# Altium schematic symbol library fader2_parts.SchLib: 112 symbols (part 1 of 2)
Pins are listed as number, name and electrical type; pins without a type are passive.

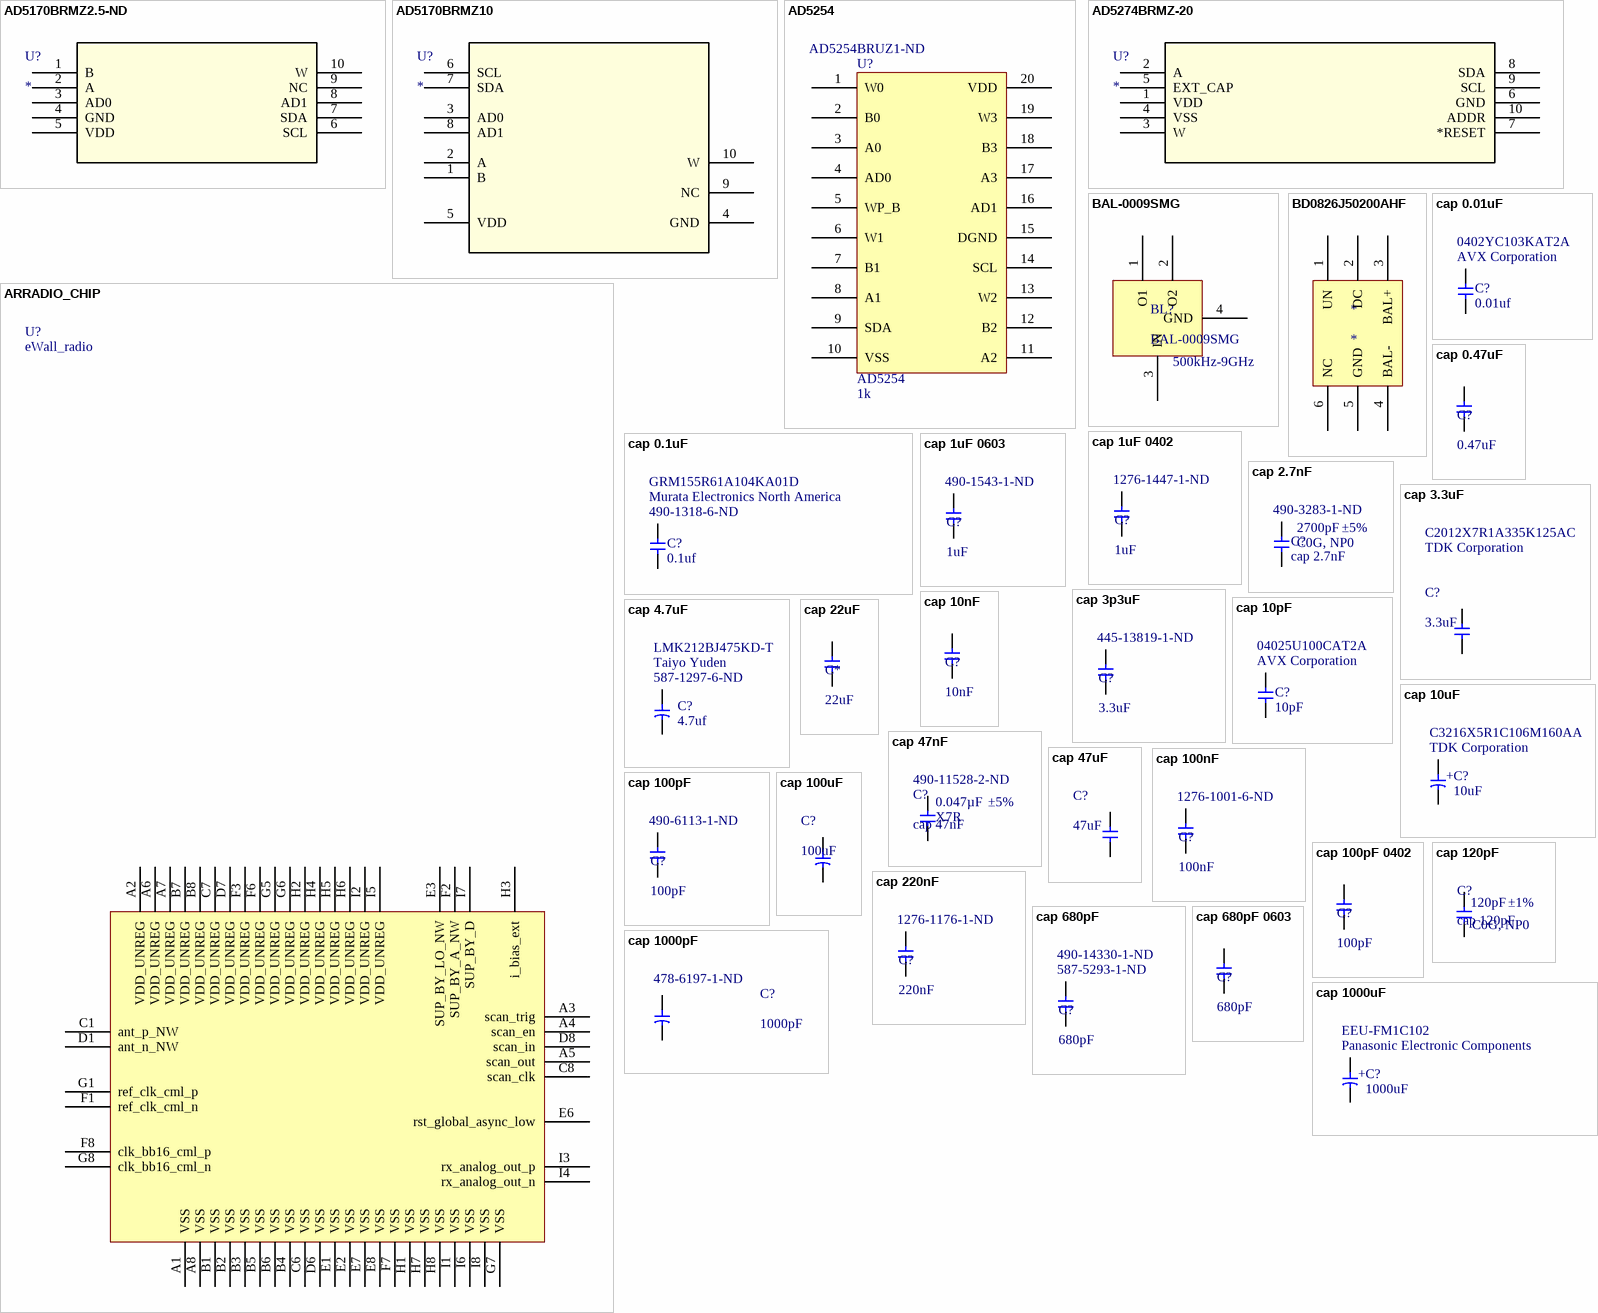
[diagram p0: symbols AD5170BRMZ2.5-ND to cap 1000uF]

## AD5170BRMZ2.5-ND
designator U?
Imported; Manufacturer_Part_Number: AD5170BRMZ2.5-ND; Mounting_Type: Surface Mount; Operating_Temperature: -40Â°C ~ 125Â°C; Voltage_-_Supply: 2.7 V ~ 5.5 V; Interface: IÂ²C, 2-Wire Serial; Vendor: Analog Devices Inc; Taps: 256; Resistance_(Ohms): 10K; Number_of_Circuits: 1; Temperature_Coefficient: 35 ppm/Â°C Typical; Memory_Type: Volatile; Copyright: Copyright (C) 2015 Accelerated Designs. All rights reserved; Packaging: Tube; Supplier_Device_Package: 10-MSOP; Package_/_Case: 10-TFSOP, 10-MSOP (0.118", 3.00mm Width); DigiKeyPartNumber: AD5170BRMZ10-ND; Quantity_Available: 0; DataSheet: http://www.analog.com/static/imported-files/data_sheets/AD5170.pdf; Value: Value; Type: Type; RefDes: RefDes
footprint RM_10
pins: 1 B, 2 A, 3 AD0, 4 GND, 5 VDD (power), 6 SCL, 7 SDA, 8 AD1, 9 NC, 10 W

## AD5170BRMZ10
designator U?
Imported; Manufacturer_Part_Number: AD5170BRMZ10; Vendor: Vendor; Value: Value; Type: Type; RefDes: Refdes
footprint RM_10
pins: 1 B, 2 A, 3 AD0, 4 GND, 5 VDD (power), 6 SCL, 7 SDA, 8 AD1, 9 NC, 10 W

## AD5254
designator U?  Resistance: 1k  Supplier Part Number 1: AD5254BRUZ1-ND
Digital Potentiometer 1k Ohm 4 Circuit 256 Taps I²C Interface 20-TSSOP; Manufacturer: Analog Devices; Manufacturer ID: AD5254BRUZ1; Digikey ID: AD5254BRUZ1-ND; Supplier 1: Digi-Key
footprint AD5254
pins: 1 W0, 2 B0, 3 A0, 4 AD0, 5 WP_B, 6 W1, 7 B1, 8 A1, 9 SDA, 10 VSS, 11 A2, 12 B2, 13 W2, 14 SCL, 15 DGND, 16 AD1, 17 A3, 18 B3, 19 W3, 20 VDD

## AD5274BRMZ-20
designator U?
Imported; Value: Value; Type: Type; RefDes: RefDes
footprint RM_10
pins: 1 VDD, 2 A, 3 W, 4 VSS, 5 EXT_CAP, 6 GND, 7 *RESET, 8 SDA, 9 SCL, 10 ADDR

## ARRADIO_CHIP
designator U?, comment eWall_radio
eWallpaper radio test chip; Published: 8-Jun-2000; LatestRevisionDate: 17-Jul-2002; LatestRevisionNote: Re-released for DXP Platform.; PackageReference: AXIAL-0.3; Publisher: Altium Limited; PackageDescription: Axial Device, Thru-Hole; 2 Leads; 0.3 in Pin Spacing
footprint ARRADIO_CHIP
pins: A1 VSS, A2 VDD_UNREG, A3 scan_trig, A4 scan_en, A5 scan_out, A6 VDD_UNREG, A7 VDD_UNREG, A8 VSS, B1 VSS, B2 VSS, B3 VSS, B4 VSS, B5 VSS, B6 VSS, B7 VDD_UNREG, B8 VDD_UNREG, C1 ant_p_NW, C6 VSS, C7 VDD_UNREG, C8 scan_clk, D1 ant_n_NW, D6 VSS, D7 VDD_UNREG, D8 scan_in, E1 VSS, E2 VSS, E3 SUP_BY_LO_NW, E6 rst_global_async_low, E7 VSS, E8 VSS, F1 ref_clk_cml_n, F2 SUP_BY_A_NW, F3 VDD_UNREG, F6 VDD_UNREG, F7 VSS, F8 clk_bb16_cml_p, G1 ref_clk_cml_p, G5 VDD_UNREG, G6 VDD_UNREG, G7 VSS, G8 clk_bb16_cml_n, H1 VSS, H2 VDD_UNREG, H3 i_bias_ext, H4 VDD_UNREG, H5 VDD_UNREG, H6 VDD_UNREG, H7 VSS, H8 VSS, I1 VSS, I2 VDD_UNREG, I3 rx_analog_out_p, I4 rx_analog_out_n, I5 VDD_UNREG, I6 VSS, I7 SUP_BY_D, I8 VSS

## BAL-0009SMG
designator BL?  Frequency Range: 500kHz-9GHz
Balun; Manufacturer: Marki; Manufacturer ID: BAL-0009SMG
footprint BALUN_Marki
pins: 1 O1, 2 O2, 3 IN, 4 GND

## BD0826J50200AHF
designator *
50:200 ohm, 0.8-2.6 GHz balun
footprint BD0826J50200AHF (50:200 ohm, 0.8-2.6 GHz balun)
pins: 1 UN, 2 DC, 3 BAL+, 4 BAL-, 5 GND, 6 NC

## cap 0.01uF
designator C?, comment 0.01uf  Manufacturer: AVX Corporation  Manufacturer Part Number: 0402YC103KAT2A
CAP CER 10000PF 16V 10% X7R 0402; Supplier 1: Digi-Key; Supplier Part Number 1: 478-1114-1-ND; RoHS: RoHS Compliant; Category: Capacitors; Stock 1: 1512647; Pricing 1: 1=0.1, 10=0.014, 100=0.0066, 250=0.0054, 500=0.00462, 1000=0.0036, 5000=0.003 (USD); Packaging: Cut Tape (CT); Capacitance: 10000pF; Voltage - Rated: 16V; Tolerance: ±10%; Temperature Coefficient: X7R; Mounting Type: Surface Mount, MLCC; Operating Temperature: -55°C ~ 125°C; Applications: General Purpose; Ratings: -; Package / Case: 0402 (1005 Metric); Size / Dimension: 0.039" L x 0.020" W (1.00mm x 0.50mm); Height - Seated (Max): -; Thickness (Max): 0.022" (0.56mm); Lead Spacing: -; Features: -; Lead Style: -; ComponentLink1URL: http://www.avx.com/docs/Catalogs/cx7r.pdf; ComponentLink1Description: http://www.avx.com/docs/Catalogs/cx7r.pdf
footprint 0402
pins: 1, 2

## cap 0.1uF
designator C?, comment 0.1uf  Supplier Part Number 1: 490-1318-6-ND  Manufacturer: Murata Electronics North America  Manufacturer Part Number: GRM155R61A104KA01D
CAP CER 0.1UF 10V 10% X5R 0402; Capacitance: 0.1µF; Supplier 1: Digi-Key; Supplier 2: Digi-Key; Supplier Part Number 2: 490-1318-1-ND; RoHS: RoHS Compliant; Category: Capacitors; Stock 2: 3393297; Pricing 2: 1=0.1, 10=0.012, 50=0.0066, 100=0.0055, 250=0.00452, 500=0.00386, 1000=0.003, 5000=0.0025 (USD); Packaging: Cut Tape (CT); Voltage - Rated: 10V; Tolerance: ±10%; Temperature Coefficient: X5R; Mounting Type: Surface Mount, MLCC; Operating Temperature: -55°C ~ 85°C; Applications: General Purpose; Ratings: -; Package / Case: 0402 (1005 Metric); Size / Dimension: 0.039" L x 0.020" W (1.00mm x 0.50mm); Height - Seated (Max): -; Thickness (Max): 0.022" (0.55mm); Lead Spacing: -; Features: -; Lead Style: -; ComponentLink1URL: http://search.murata.co.jp/Ceramy/image/img/A01X/G101/ENG/GRM155R61A104KA01-01.pdf; ComponentLink1Description: http://search.murata.co.jp/Ceramy/image/img/A01X/G101/ENG/GRM155R61A104KA01-01.pdf
footprint 0402
pins: 1, 2

## cap 0.47uF
designator C?, comment 0.47uF
Value: 0.47uF; Package: 0402
footprint 0402
pins: 1, 2

## cap 1uF 0402
designator C?, comment 1uF  Supplier Part Number 1: 1276-1447-1-ND
CAP CER 1uF 20% 16V X5R 0402; Manufacturer: Samsung Electro-Mechanics; Manufacturer ID: CL05A105MO5NNNC; Digikey ID: 1276-1447-1-ND; Value: 1uF; Package: 0402; Supplier 1: Digi-Key
footprint CAP_0402
pins: 1, 2

## cap 1uF 0603
designator C?, comment 1uF  Supplier Part Number 1: 490-1543-1-ND
CAP CER 1uF 10% 10V X5R 0603; Manufacturer: Murata; Manufacturer ID: GRM188R61A105KA61D; Digikey ID: 490-1543-1-ND; Value: 1uF; Package: 0603; Supplier 1: Digi-Key
footprint CAP_0603
pins: 1, 2

## cap 2.7nF
designator C?  Capacitance: 2700pF  Tolerance: ±5%  Temperature Coefficient: C0G, NP0  Supplier Part Number 1: 490-3283-1-ND
CAP CER 2700PF ±5% 50V C0G/NP0 0603; Manufacturer: Murata Electronics North America; Manufacturer Part Number: GRM1885C1H272JA01D; Supplier 1: Digi-Key; RoHS: RoHS Compliant; Category: Capacitors; Packaging: Tape & Reel (TR); Part Status: Active; Voltage - Rated: 50V; Operating Temperature: -55°C ~ 125°C; Features: -; Ratings: -; Applications: General Purpose; Mounting Type: Surface Mount, MLCC; Package / Case: 0603 (1608 Metric); Size / Dimension: 0.063" L x 0.031" W (1.60mm x 0.80mm); Height - Seated (Max): -; Thickness (Max): 0.035" (0.90mm); Lead Spacing: -; Lead Style: -; ComponentLink1URL: http://www.murata.com/~/media/webrenewal/support/library/catalog/products/capacitor/mlcc/c02e.ashx; ComponentLink1Description: http://www.murata.com/~/media/webrenewal/support/library/catalog/products/capacitor/mlcc/c02e.ashx; Stock 1: 20301; Pricing 1: 1=0.11, 10=0.083, 100=0.0372, 500=0.02656, 1000=0.02087 (USD)
footprint 0603
pins: 1, 2

## cap 3.3uF
designator C?, comment 3.3uF  Manufacturer: TDK Corporation  Manufacturer Part Number: C2012X7R1A335K125AC
CAP CER 3.3UF 10V 10% X7R 0805; Capacitance: 3.3µF; RoHS: RoHS Compliant; Packaging: Cut Tape (CT); Voltage - Rated: 10V; Tolerance: ±10%; Temperature Coefficient: X7R; Mounting Type: Surface Mount, MLCC; Operating Temperature: -55°C ~ 125°C; Applications: General Purpose; Ratings: -; Package / Case: 0805 (2012 Metric); Size / Dimension: 0.079" L x 0.049" W (2.00mm x 1.25mm); Height - Seated (Max): -; Thickness (Max): 0.057" (1.45mm); Lead Spacing: -; Features: -; Lead Style: -; ComponentLink1URL: http://product.tdk.com/capacitor/mlcc/en/documents/mlcc_commercial_general_en.pdf; ComponentLink1Description: http://product.tdk.com/capacitor/mlcc/en/documents/mlcc_commercial_general_en.pdf; Supplier 1: Digi-Key; Supplier Part Number 1: 445-7589-1-ND; Category: Capacitors; Stock 1: 52397; Pricing 1: 1=0.24, 10=0.2, 100=0.1, 250=0.075, 500=0.06626, 1000=0.05875 (USD)
footprint 0805
pins: 1, 2

## cap 3p3uF
designator C?, comment 3.3uF  Supplier Part Number 1: 445-13819-1-ND
CAP CER 3.3uF 10% 10V X5R 0402; Manufacturer: TDK; Manufacturer ID: C1005X5R1A335K050BC; Digikey ID: 445-13819-1-ND; Value: 3.3uF; Package: 0402; Supplier 1: Digi-Key
footprint CAP_0402
pins: 1, 2

## cap 4.7uF
designator C?, comment 4.7uf  Supplier Part Number 1: 587-1297-6-ND  Manufacturer: Taiyo Yuden  Manufacturer Part Number: LMK212BJ475KD-T
CAP CER 4.7UF 10V 10% X5R 0805; Capacitance: 4.7µF; Supplier 1: Digi-Key; Supplier 2: Digi-Key; Supplier Part Number 2: 587-1297-1-ND; RoHS: RoHS Compliant; Category: Capacitors; Stock 2: 40798; Pricing 2: 1=0.17, 10=0.12, 50=0.069, 100=0.057, 250=0.048, 500=0.0402, 1000=0.033 (USD); Packaging: Cut Tape (CT); Voltage - Rated: 10V; Tolerance: ±10%; Temperature Coefficient: X5R; Mounting Type: Surface Mount, MLCC; Operating Temperature: -55°C ~ 85°C; Applications: General Purpose; Ratings: -; Package / Case: 0805 (2012 Metric); Size / Dimension: 0.079" L x 0.049" W (2.00mm x 1.25mm); Height - Seated (Max): -; Thickness (Max): 0.037" (0.95mm); Lead Spacing: -; Features: -; Lead Style: -; ComponentLink1URL: http://www.yuden.co.jp/or/product/category/capacitor/LMK212BJ475KD-T.pdf; ComponentLink1Description: http://www.yuden.co.jp/or/product/category/capacitor/LMK212BJ475KD-T.pdf
footprint 0805
pins: 1, 2

## cap 10nF
designator C?, comment 10nF
CAP CER 10nF 10% 50V X7R 0402; Manufacturer: Murata; Manufacturer ID: GCM155R71H103KA55D; Value: 10000pF; Digikey ID: 490-4762-1-ND; Package: 0402; Supplier 1: Digi-Key; Supplier Part Number 1: 490-4762-1-ND
footprint CAPC1005X06L_HD (Chip Capacitor, 2-Leads, Body 1.00x0.50mm, IPC High Density)
pins: 1, 2

## cap 10pF
designator C?, comment 10pF  Manufacturer: AVX Corporation  Manufacturer Part Number: 04025U100CAT2A
CAP CER 10PF 50V +-0.25pF C0G/NP0 0402; Capacitance: 10000pF; Tolerance: ±0.25pF; RoHS: RoHS Compliant; Category: Capacitors; Packaging: Cut Tape (CT); Voltage - Rated: 50V; Temperature Coefficient: C0G/NP0; Mounting Type: Surface Mount, MLCC; Operating Temperature: -55°C ~ 125°C; Applications: General Purpose; Ratings: -; Package / Case: 0402 (1005 Metric); Size / Dimension: 0.039" L x 0.020" W (1.00mm x 0.50mm); Height - Seated (Max): -; Thickness (Max): 0.024" (0.60mm); Lead Spacing: -; Features: -; Lead Style: -; ComponentLink1URL: http://www.avx.com/docs/Catalogs/cx7r.pdf; ComponentLink1Description: http://www.avx.com/docs/Catalogs/cx7r.pdf; Supplier 1: Digi-Key; Supplier Part Number 1: 478-5991-1-ND
footprint 0402
pins: 1, 2

## cap 10uF
designator C?, comment 10uF  Manufacturer: TDK Corporation  Manufacturer Part Number: C3216X5R1C106M160AA
CAP CER 10UF 16V 20% X5R 1206; Capacitance: 10µF; Supplier 1: Digi-Key; Supplier Part Number 1: 445-1426-1-ND; RoHS: RoHS Compliant; Category: Capacitors; Stock 1: 471158; Pricing 1: 1=0.29, 10=0.24, 100=0.12, 250=0.09, 500=0.0795, 1000=0.0705 (USD); Packaging: Cut Tape (CT); Voltage - Rated: 16V; Tolerance: ±20%; Temperature Coefficient: X5R; Mounting Type: Surface Mount, MLCC; Operating Temperature: -55°C ~ 85°C; Applications: General Purpose; Ratings: -; Package / Case: 1206 (3216 Metric); Size / Dimension: 0.126" L x 0.063" W (3.20mm x 1.60mm); Height - Seated (Max): -; Thickness (Max): 0.071" (1.80mm); Lead Spacing: -; Features: -; Lead Style: -; ComponentLink1URL: http://product.tdk.com/capacitor/mlcc/en/documents/mlcc_commercial_general_en.pdf; ComponentLink1Description: http://product.tdk.com/capacitor/mlcc/en/documents/mlcc_commercial_general_en.pdf
footprint 1206
pins: 1, 2
text: +

## cap 22uF
designator C*, comment 22uF
CAP CER 22uF 10% 16V X7R 1210; Manufacturer: Murata; Manufacturer ID: GRM32ER71C226KE18L; Digikey ID: 490-4524-1-ND; Value: 22uF; Package: 1210; Supplier 1: Arrow; Supplier Part Number 1: GRM32ER71C226KE18L
footprint CAPC3225X27M (Chip Capacitor, 2-Leads, Body 3.20x2.50mm, IPC Low Density)
pins: 1, 2

## cap 47nF
designator C?  Capacitance: 0.047µF  Tolerance: ±5%  Temperature Coefficient: X7R  Supplier Part Number 1: 490-11528-2-ND
CAP CER 0.047UF 25V X7R 0603; Manufacturer: Murata Electronics North America; Manufacturer Part Number: GRM188R71E473JA01D; Supplier 1: Digi-Key; RoHS: RoHS Compliant; Category: Capacitors; Stock 1: 8000; Pricing 1: 4000=0.01987, 8000=0.01848, 12000=0.01756 (USD); Packaging: Tape & Reel (TR); Part Status: Active; Voltage - Rated: 25V; Operating Temperature: -55°C ~ 125°C; Features: -; Ratings: -; Applications: General Purpose; Mounting Type: Surface Mount, MLCC; Package / Case: 0603 (1608 Metric); Size / Dimension: 0.063" L x 0.031" W (1.60mm x 0.80mm); Height - Seated (Max): -; Thickness (Max): 0.035" (0.90mm); Lead Spacing: -; Lead Style: -; ComponentLink1URL: http://www.murata.com/~/media/webrenewal/support/library/catalog/products/capacitor/mlcc/c02e.ashx; ComponentLink1Description: http://www.murata.com/~/media/webrenewal/support/library/catalog/products/capacitor/mlcc/c02e.ashx
footprint 0603
pins: 1, 2

## cap 47uF
designator C?, comment 47uF
CAP CER 47UF 0805; Capacitance: 47µF; RoHS: RoHS Compliant; Packaging: Cut Tape (CT); Mounting Type: Surface Mount, MLCC; Applications: General Purpose; Ratings: -; Package / Case: 0805 (2012 Metric); Height - Seated (Max): -; Lead Spacing: -; Features: -; Lead Style: -; Category: Capacitors
footprint 0805
pins: 1, 2

## cap 100nF
designator C?, comment 100nF  Supplier Part Number 1: 1276-1001-6-ND
CAP CER 0.1uF 10% 16V X7R 0402; Manufacturer: Samsung Electro-Mechanics; Manufacturer ID: CL05B104KO5NNNC; Digikey ID: 1276-1001-1-ND; Value: 0.1uF; Package: 0402; Supplier 1: Digi-Key
footprint CAP_0402
pins: 1, 2

## cap 100pF
designator C?, comment 100pF  Supplier Part Number 1: 490-6113-1-ND
CAP CER 100pF 5% 50V C0G/NP0 0201; Manufacturer: Murata; Manufacturer ID: GRM0335C1H101JA01D; Digikey ID: 490-6113-1-ND; Value: 100pF; Package: 0201; Supplier 1: Digi-Key
footprint CAP_0201
pins: 1, 2

## cap 100pF 0402
designator C?, comment 100pF
CAP CER 100pF 5% 50V C0G/NP0 0402; Manufacturer: Kemet; Manufacturer ID: C0402C101J5GACTU; Digikey ID: 399-3194-1-ND; Value: 100pF; Package: 0402; Supplier 1: Digi-Key; Supplier Part Number 1: 399-3194-1-ND
footprint CAPC1005X06L_HD (Chip Capacitor, 2-Leads, Body 1.00x0.50mm, IPC High Density)
pins: 1, 2

## cap 100uF
designator C?, comment 100uF
CAP CER 100uF 6p3V 20% X5R 1210; Manufacturer: AVX Corporation; Manufacturer Part Number: 12106D107MAT2A; Capacitance: 100µF; Voltage - Rated: 6.3V; RoHS: RoHS Compliant; Category: Capacitors; Packaging: Cut Tape (CT); Tolerance: ±20%; Temperature Coefficient: X5R; Mounting Type: Surface Mount, MLCC; Operating Temperature: -55°C ~ 85°C; Applications: General Purpose; Ratings: -; Package / Case: 1210 (3225 Metric); Size / Dimension: 0.126" L x 0.098" W (3.20mm x 2.50mm); Height - Seated (Max): -; Thickness (Max): 0.110" (2.79mm); Lead Spacing: -; Features: -; Lead Style: -; ComponentLink1URL: http://www.avx.com/docs/Catalogs/cx5r.pdf; ComponentLink1Description: http://www.avx.com/docs/Catalogs/cx5r.pdf; Supplier 1: Digi-Key; Supplier Part Number 1: 490-3390-1-ND
footprint 1210 (Chip Capacitor, Body 3.2x2.5mm, Height 2.8mm, IPC Medium Density)
pins: 1, 2

## cap 120pF
designator C?  Capacitance: 120pF  Tolerance: ±1%  Temperature Coefficient: C0G, NP0
CAP CER 120PF 50V C0G/NP0 0402; Manufacturer: Murata Electronics North America; Manufacturer Part Number: GRM1555C1H121FA01D; Supplier 1: Digi-Key; RoHS: RoHS Compliant; Category: Capacitors; Stock 1: 47198; Pricing 1: 1=0.1, 10=0.05, 100=0.0223, 500=0.01594, 1000=0.01252, 2500=0.01138, 5000=0.01047 (USD); Packaging: Cut Tape (CT); Part Status: Active; Voltage - Rated: 50V; Operating Temperature: -55°C ~ 125°C; Features: -; Ratings: -; Applications: General Purpose; Mounting Type: Surface Mount, MLCC; Package / Case: 0402 (1005 Metric); Size / Dimension: 0.039" L x 0.020" W (1.00mm x 0.50mm); Height - Seated (Max): -; Thickness (Max): 0.022" (0.55mm); Lead Spacing: -; Lead Style: -; ComponentLink1URL: http://search.murata.co.jp/Ceramy/image/img/A01X/G101/ENG/GRM1555C1H121FA01-01.pdf; ComponentLink1Description: http://search.murata.co.jp/Ceramy/image/img/A01X/G101/ENG/GRM1555C1H121FA01-01.pdf; Supplier Part Number 1: 490-8182-1-ND
footprint 0402
pins: 1, 2

## cap 220nF
designator C?, comment 220nF  Supplier Part Number 1: 1276-1176-1-ND
CAP CER 0.22uF 10% 16V X7R 0402; Manufacturer: Samsung Electro-Mechanics; Manufacturer ID: CL05B224KO5NNNC; Digikey ID: 1276-1176-1-ND; Value: 0.22uF; Package: 0402; Supplier 1: Digi-Key
footprint CAP_0402
pins: 1, 2

## cap 680pF
designator C?, comment 680pF  Supplier Part Number 1: 587-5293-1-ND  Supplier Part Number 2: 490-14330-1-ND
CAP CER 680pF 5% 25V C0G/NP0 0201; Manufacturer: Murata; Manufacturer ID: GRM0335C1E681JA01D; Digikey ID: 490-14330-1-ND; Value: 680pF; Package: 0201; Supplier 1: Digi-Key; Supplier 2: Digi-Key
footprint CAP_0201
pins: 1, 2

## cap 680pF 0603
designator C?, comment 680pF
CAP CER 680pF 5% 25V C0G/NP0 0603; Manufacturer: Kemet; Manufacturer ID: C0603C681J3GACTU; Package: 0603; Supplier 1: Digi-Key; Supplier Part Number 1: 399-7949-1-ND; Capacitance: 680pF
footprint CAP_0603
pins: 1, 2

## cap 1000pF
designator C?, comment 1000pF  Supplier Part Number 1: 478-6197-1-ND
CAP CER 1000pF 16V 10% X7R 0402; Manufacturer: AVX Corporation; Manufacturer Part Number: 0402YC102KAT2A; Supplier 1: Digi-Key; RoHS: RoHS Compliant; Category: Capacitors; Stock 1: 214905; Pricing 1: 1=0.1, 10=0.06, 100=0.0275, 250=0.02252, 500=0.01926, 1000=0.015, 5000=0.0125 (USD); Packaging: Cut Tape (CT); Capacitance: 1000pF; Voltage - Rated: 16V; Tolerance: ±10%; Temperature Coefficient: X7R; Mounting Type: Surface Mount, MLCC; Operating Temperature: -55°C ~ 125°C; Applications: General Purpose; Ratings: -; Package / Case: 0402 (1005 Metric); Size / Dimension: 0.039" L x 0.020" W (1.00mm x 0.50mm); Height - Seated (Max): -; Thickness (Max): 0.022" (0.56mm); Lead Spacing: -; Features: -; Lead Style: -; ComponentLink1URL: http://www.avx.com/docs/Catalogs/cx7r.pdf; ComponentLink1Description: http://www.avx.com/docs/Catalogs/cx7r.pdf
footprint 0402
pins: 1, 2

## cap 1000uF
designator C?, comment 1000uF  Manufacturer: Panasonic Electronic Components  Manufacturer Part Number: EEU-FM1C102
CAP ALUM 1000UF 16V 20% RADIAL; Capacitance: 1000µF; Lifetime @ Temp.: 5000 Hrs @ 105°C; Ripple Current: 2.18A; Impedance: 19 mOhm; Supplier 1: Digi-Key; Supplier Part Number 1: P12366-ND; RoHS: RoHS Compliant; Category: Capacitors; Stock 1: 152216; Pricing 1: 1=0.67, 50=0.3936, 100=0.3374, 500=0.26714, 1000=0.22496, 5000=0.19684, 10000=0.18981, 25000=0.18278 (USD); Packaging: Bulk; Voltage Rating: 16V; Tolerance: ±20%; ESR (Equivalent Series Resistance): -; Operating Temperature: -40°C ~ 105°C; Type: -; Applications: General Purpose; Lead Spacing: 0.197" (5.00mm); Size / Dimension: 0.394" Dia (10.00mm); Height - Seated (Max): 0.787" (20.00mm); Surface Mount Land Size: -; Mounting Type: Through Hole; Package / Case: Radial, Can; ComponentLink1URL: http://industrial.panasonic.com/www-data/pdf/ABA0000/ABA0000CE108.pdf; ComponentLink1Description: http://industrial.panasonic.com/www-data/pdf/ABA0000/ABA0000CE108.pdf
footprint CAP_5mm
pins: 1, 2
text: +

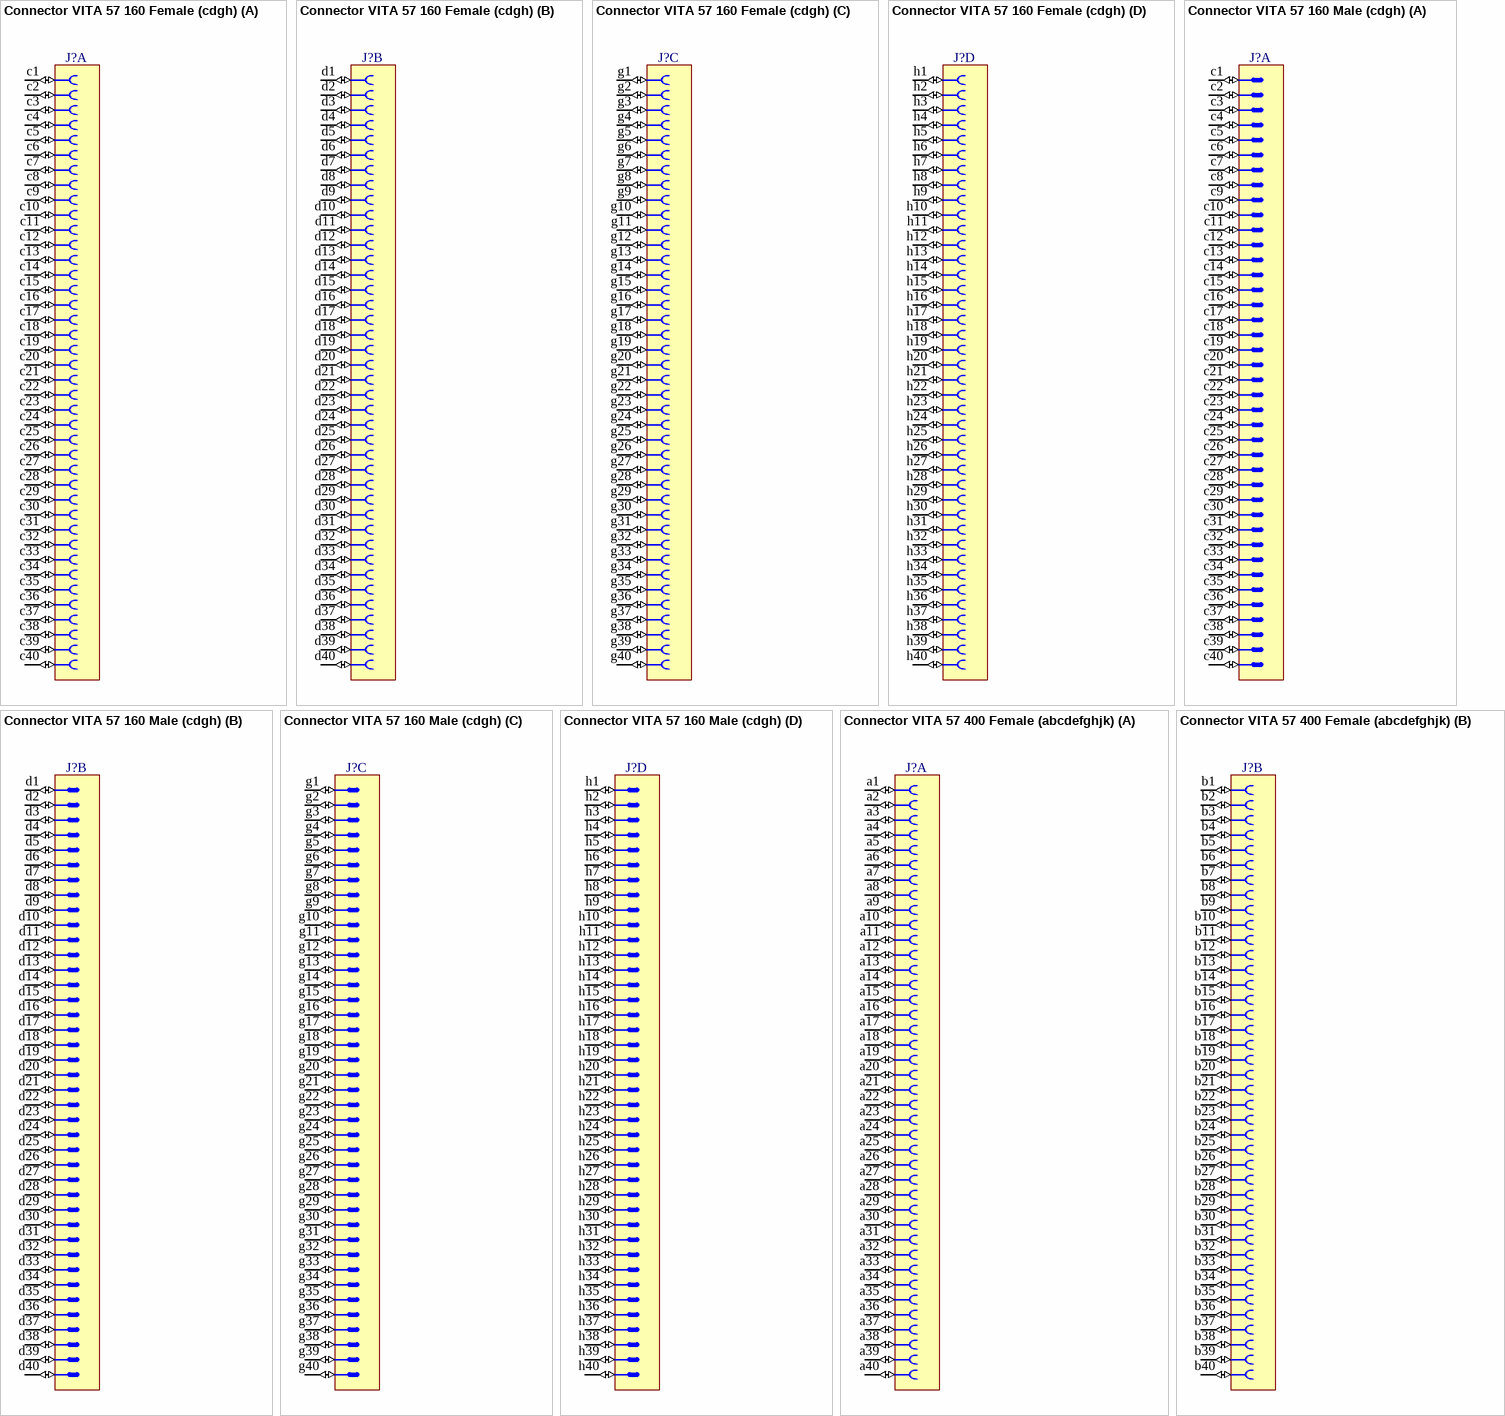
[diagram p1: symbols Connector VITA 57 160 Female (cdgh) to Connector VITA 57 400 Female (abcdefghjk)]

## Connector VITA 57 160 Female (cdgh)
designator J?, comment VITA 57  (value not drawn)
Connector VITA 57, 160 Female contacts in 4 row cdgh; Part Number: SAMTEC_ASP-134603-01; Part Description: 160 contacts (4 rows cdgh) Surface Mount Female Connector, VITA 57 (CC-LPC-10); Manufacturer: SAMTEC; Manufacturer Part Number: ASP-134603-01; PressFit: No; Component Kind: Standard; Component Type: Standard; Footprint: SAMTEC_ASP-134603-01; Pin Count: 160; Family: VITA 57; Mounted: Yes; Socket: No; SMD: Yes; Status: None; ComponentHeight: 6.55mm; HelpURL: \\cern.ch\dfs\Applications\Altium\Datasheets\SAMTEC_ASP-134603-01.pdf; Author: CERN DEM JLC; CreateDate: 7/13/2010; LatestRevisionDate: 7/13/2010; Table: SAMTEC
footprint SAMTEC_ASP-134603-01 (Connector VITA 57 (Low Pin Count version), 160 Female contacts in 4 row cdgh)
part A pins: c1 (io), c2 (io), c3 (io), c4 (io), c5 (io), c6 (io), c7 (io), c8 (io), c9 (io), c10 (io), c11 (io), c12 (io), c13 (io), c14 (io), c15 (io), c16 (io), c17 (io), c18 (io), c19 (io), c20 (io), c21 (io), c22 (io), c23 (io), c24 (io), c25 (io), c26 (io), c27 (io), c28 (io), c29 (io), c30 (io), c31 (io), c32 (io), c33 (io), c34 (io), c35 (io), c36 (io), c37 (io), c38 (io), c39 (io), c40 (io)
part B pins: d1 (io), d2 (io), d3 (io), d4 (io), d5 (io), d6 (io), d7 (io), d8 (io), d9 (io), d10 (io), d11 (io), d12 (io), d13 (io), d14 (io), d15 (io), d16 (io), d17 (io), d18 (io), d19 (io), d20 (io), d21 (io), d22 (io), d23 (io), d24 (io), d25 (io), d26 (io), d27 (io), d28 (io), d29 (io), d30 (io), d31 (io), d32 (io), d33 (io), d34 (io), d35 (io), d36 (io), d37 (io), d38 (io), d39 (io), d40 (io)
part C pins: g1 (io), g2 (io), g3 (io), g4 (io), g5 (io), g6 (io), g7 (io), g8 (io), g9 (io), g10 (io), g11 (io), g12 (io), g13 (io), g14 (io), g15 (io), g16 (io), g17 (io), g18 (io), g19 (io), g20 (io), g21 (io), g22 (io), g23 (io), g24 (io), g25 (io), g26 (io), g27 (io), g28 (io), g29 (io), g30 (io), g31 (io), g32 (io), g33 (io), g34 (io), g35 (io), g36 (io), g37 (io), g38 (io), g39 (io), g40 (io)
part D pins: h1 (io), h2 (io), h3 (io), h4 (io), h5 (io), h6 (io), h7 (io), h8 (io), h9 (io), h10 (io), h11 (io), h12 (io), h13 (io), h14 (io), h15 (io), h16 (io), h17 (io), h18 (io), h19 (io), h20 (io), h21 (io), h22 (io), h23 (io), h24 (io), h25 (io), h26 (io), h27 (io), h28 (io), h29 (io), h30 (io), h31 (io), h32 (io), h33 (io), h34 (io), h35 (io), h36 (io), h37 (io), h38 (io), h39 (io), h40 (io)

## Connector VITA 57 160 Male (cdgh)
designator J?, comment VITA 57  (value not drawn)
Connector VITA 57, 160 Male contacts in 4 row cdgh; Part Number: SAMTEC_ASP-127797-01; Part Description: 160 contacts (4 rows cdgh) Surface Mount Male Connector, VITA 57 (MC-LPC-10L); Manufacturer: SAMTEC; Manufacturer Part Number: ASP-127797-01; PressFit: No; Component Kind: Standard; Component Type: Standard; Footprint: SAMTEC_ASP-127797-01; Pin Count: 160; Family: VITA 57; Mounted: Yes; Socket: No; SMD: Yes; Status: Not recommended; ComponentHeight: 6.1mm; HelpURL: \\cern.ch\dfs\Applications\Altium\Datasheets\SAMTEC_ASP-127797-01.pdf; Author: CERN DEM JLC; CreateDate: 9/24/2009; LatestRevisionDate: 3/14/2012; Table: SAMTEC
footprint SAMTEC_ASP-134604-01 (Connector VITA 57, 160 Male contacts in 4 row cdgh)
part A pins: c1 (io), c2 (io), c3 (io), c4 (io), c5 (io), c6 (io), c7 (io), c8 (io), c9 (io), c10 (io), c11 (io), c12 (io), c13 (io), c14 (io), c15 (io), c16 (io), c17 (io), c18 (io), c19 (io), c20 (io), c21 (io), c22 (io), c23 (io), c24 (io), c25 (io), c26 (io), c27 (io), c28 (io), c29 (io), c30 (io), c31 (io), c32 (io), c33 (io), c34 (io), c35 (io), c36 (io), c37 (io), c38 (io), c39 (io), c40 (io)
part B pins: d1 (io), d2 (io), d3 (io), d4 (io), d5 (io), d6 (io), d7 (io), d8 (io), d9 (io), d10 (io), d11 (io), d12 (io), d13 (io), d14 (io), d15 (io), d16 (io), d17 (io), d18 (io), d19 (io), d20 (io), d21 (io), d22 (io), d23 (io), d24 (io), d25 (io), d26 (io), d27 (io), d28 (io), d29 (io), d30 (io), d31 (io), d32 (io), d33 (io), d34 (io), d35 (io), d36 (io), d37 (io), d38 (io), d39 (io), d40 (io)
part C pins: g1 (io), g2 (io), g3 (io), g4 (io), g5 (io), g6 (io), g7 (io), g8 (io), g9 (io), g10 (io), g11 (io), g12 (io), g13 (io), g14 (io), g15 (io), g16 (io), g17 (io), g18 (io), g19 (io), g20 (io), g21 (io), g22 (io), g23 (io), g24 (io), g25 (io), g26 (io), g27 (io), g28 (io), g29 (io), g30 (io), g31 (io), g32 (io), g33 (io), g34 (io), g35 (io), g36 (io), g37 (io), g38 (io), g39 (io), g40 (io)
part D pins: h1 (io), h2 (io), h3 (io), h4 (io), h5 (io), h6 (io), h7 (io), h8 (io), h9 (io), h10 (io), h11 (io), h12 (io), h13 (io), h14 (io), h15 (io), h16 (io), h17 (io), h18 (io), h19 (io), h20 (io), h21 (io), h22 (io), h23 (io), h24 (io), h25 (io), h26 (io), h27 (io), h28 (io), h29 (io), h30 (io), h31 (io), h32 (io), h33 (io), h34 (io), h35 (io), h36 (io), h37 (io), h38 (io), h39 (io), h40 (io)

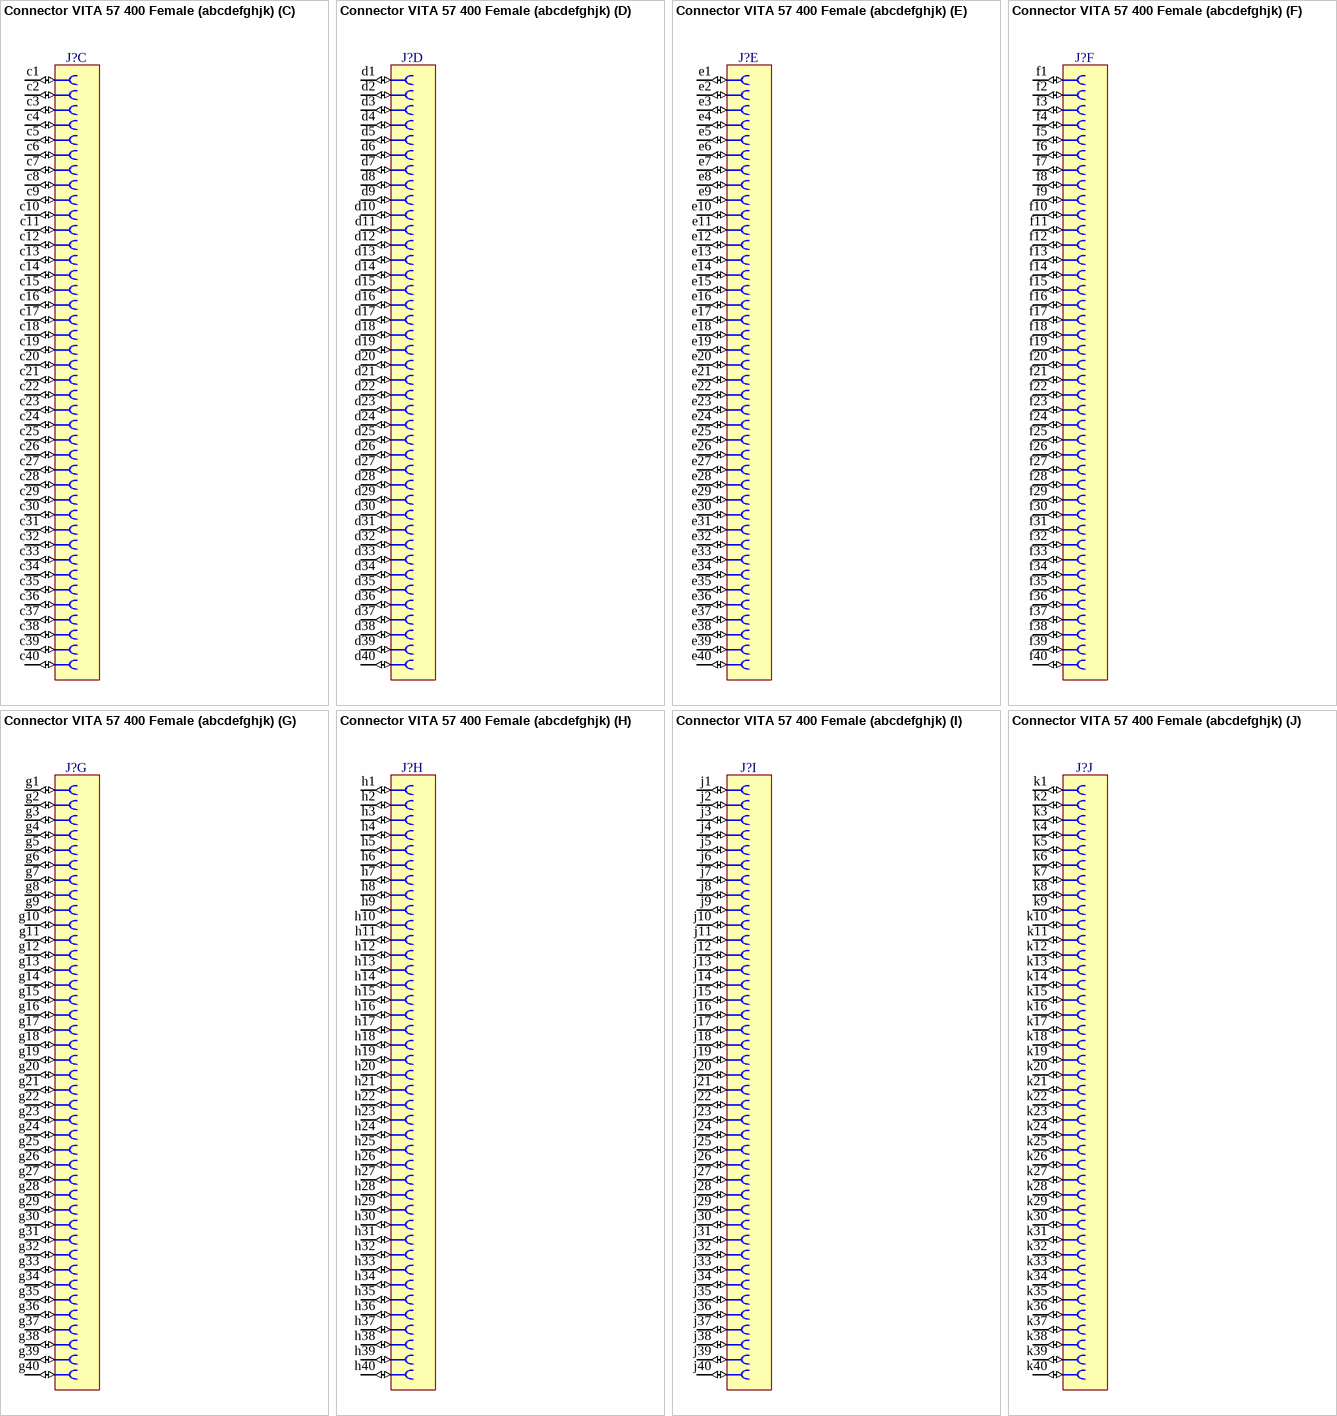
[diagram p2: symbol Connector VITA 57 400 Female (abcdefghjk)]

## Connector VITA 57 400 Female (abcdefghjk)
designator J?, comment VITA 57  (value not drawn)
Connector VITA 57, 400 Female contacts in 10 row abcdefghj; Part Number: SAMTEC_ASP-134486-01; Part Description: 400 contacts (10 rows abcdefghj) Surface Mount Female Connector, VITA 57 (CC-HPC-10); Manufacturer: SAMTEC; Manufacturer Part Number: ASP-134486-01; PressFit: No; Component Kind: Standard; Component Type: Standard; Footprint: SAMTEC_ASP-134486-01; Pin Count: 400; Family: VITA 57; Mounted: Yes; Socket: No; SMD: Yes; Status: None; ComponentHeight: 6.55mm; HelpURL: \\cern.ch\dfs\Applications\Altium\Datasheets\SAMTEC_ASP-134486-01.pdf; Author: CERN DEM JLC; CreateDate: 4/30/2009; LatestRevisionDate: 8/17/2009; Table: SAMTEC
footprint SAMTEC_ASP-134486-01 (Connector VITA 57, 400 Female contacts in 10 row abcdefghj)
part A pins: a1 (io), a2 (io), a3 (io), a4 (io), a5 (io), a6 (io), a7 (io), a8 (io), a9 (io), a10 (io), a11 (io), a12 (io), a13 (io), a14 (io), a15 (io), a16 (io), a17 (io), a18 (io), a19 (io), a20 (io), a21 (io), a22 (io), a23 (io), a24 (io), a25 (io), a26 (io), a27 (io), a28 (io), a29 (io), a30 (io), a31 (io), a32 (io), a33 (io), a34 (io), a35 (io), a36 (io), a37 (io), a38 (io), a39 (io), a40 (io)
part B pins: b1 (io), b2 (io), b3 (io), b4 (io), b5 (io), b6 (io), b7 (io), b8 (io), b9 (io), b10 (io), b11 (io), b12 (io), b13 (io), b14 (io), b15 (io), b16 (io), b17 (io), b18 (io), b19 (io), b20 (io), b21 (io), b22 (io), b23 (io), b24 (io), b25 (io), b26 (io), b27 (io), b28 (io), b29 (io), b30 (io), b31 (io), b32 (io), b33 (io), b34 (io), b35 (io), b36 (io), b37 (io), b38 (io), b39 (io), b40 (io)
part C pins: c1 (io), c2 (io), c3 (io), c4 (io), c5 (io), c6 (io), c7 (io), c8 (io), c9 (io), c10 (io), c11 (io), c12 (io), c13 (io), c14 (io), c15 (io), c16 (io), c17 (io), c18 (io), c19 (io), c20 (io), c21 (io), c22 (io), c23 (io), c24 (io), c25 (io), c26 (io), c27 (io), c28 (io), c29 (io), c30 (io), c31 (io), c32 (io), c33 (io), c34 (io), c35 (io), c36 (io), c37 (io), c38 (io), c39 (io), c40 (io)
part D pins: d1 (io), d2 (io), d3 (io), d4 (io), d5 (io), d6 (io), d7 (io), d8 (io), d9 (io), d10 (io), d11 (io), d12 (io), d13 (io), d14 (io), d15 (io), d16 (io), d17 (io), d18 (io), d19 (io), d20 (io), d21 (io), d22 (io), d23 (io), d24 (io), d25 (io), d26 (io), d27 (io), d28 (io), d29 (io), d30 (io), d31 (io), d32 (io), d33 (io), d34 (io), d35 (io), d36 (io), d37 (io), d38 (io), d39 (io), d40 (io)
part E pins: e1 (io), e2 (io), e3 (io), e4 (io), e5 (io), e6 (io), e7 (io), e8 (io), e9 (io), e10 (io), e11 (io), e12 (io), e13 (io), e14 (io), e15 (io), e16 (io), e17 (io), e18 (io), e19 (io), e20 (io), e21 (io), e22 (io), e23 (io), e24 (io), e25 (io), e26 (io), e27 (io), e28 (io), e29 (io), e30 (io), e31 (io), e32 (io), e33 (io), e34 (io), e35 (io), e36 (io), e37 (io), e38 (io), e39 (io), e40 (io)
part F pins: f1 (io), f2 (io), f3 (io), f4 (io), f5 (io), f6 (io), f7 (io), f8 (io), f9 (io), f10 (io), f11 (io), f12 (io), f13 (io), f14 (io), f15 (io), f16 (io), f17 (io), f18 (io), f19 (io), f20 (io), f21 (io), f22 (io), f23 (io), f24 (io), f25 (io), f26 (io), f27 (io), f28 (io), f29 (io), f30 (io), f31 (io), f32 (io), f33 (io), f34 (io), f35 (io), f36 (io), f37 (io), f38 (io), f39 (io), f40 (io)
part G pins: g1 (io), g2 (io), g3 (io), g4 (io), g5 (io), g6 (io), g7 (io), g8 (io), g9 (io), g10 (io), g11 (io), g12 (io), g13 (io), g14 (io), g15 (io), g16 (io), g17 (io), g18 (io), g19 (io), g20 (io), g21 (io), g22 (io), g23 (io), g24 (io), g25 (io), g26 (io), g27 (io), g28 (io), g29 (io), g30 (io), g31 (io), g32 (io), g33 (io), g34 (io), g35 (io), g36 (io), g37 (io), g38 (io), g39 (io), g40 (io)
part H pins: h1 (io), h2 (io), h3 (io), h4 (io), h5 (io), h6 (io), h7 (io), h8 (io), h9 (io), h10 (io), h11 (io), h12 (io), h13 (io), h14 (io), h15 (io), h16 (io), h17 (io), h18 (io), h19 (io), h20 (io), h21 (io), h22 (io), h23 (io), h24 (io), h25 (io), h26 (io), h27 (io), h28 (io), h29 (io), h30 (io), h31 (io), h32 (io), h33 (io), h34 (io), h35 (io), h36 (io), h37 (io), h38 (io), h39 (io), h40 (io)
part I pins: j1 (io), j2 (io), j3 (io), j4 (io), j5 (io), j6 (io), j7 (io), j8 (io), j9 (io), j10 (io), j11 (io), j12 (io), j13 (io), j14 (io), j15 (io), j16 (io), j17 (io), j18 (io), j19 (io), j20 (io), j21 (io), j22 (io), j23 (io), j24 (io), j25 (io), j26 (io), j27 (io), j28 (io), j29 (io), j30 (io), j31 (io), j32 (io), j33 (io), j34 (io), j35 (io), j36 (io), j37 (io), j38 (io), j39 (io), j40 (io)
part J pins: k1 (io), k2 (io), k3 (io), k4 (io), k5 (io), k6 (io), k7 (io), k8 (io), k9 (io), k10 (io), k11 (io), k12 (io), k13 (io), k14 (io), k15 (io), k16 (io), k17 (io), k18 (io), k19 (io), k20 (io), k21 (io), k22 (io), k23 (io), k24 (io), k25 (io), k26 (io), k27 (io), k28 (io), k29 (io), k30 (io), k31 (io), k32 (io), k33 (io), k34 (io), k35 (io), k36 (io), k37 (io), k38 (io), k39 (io), k40 (io)

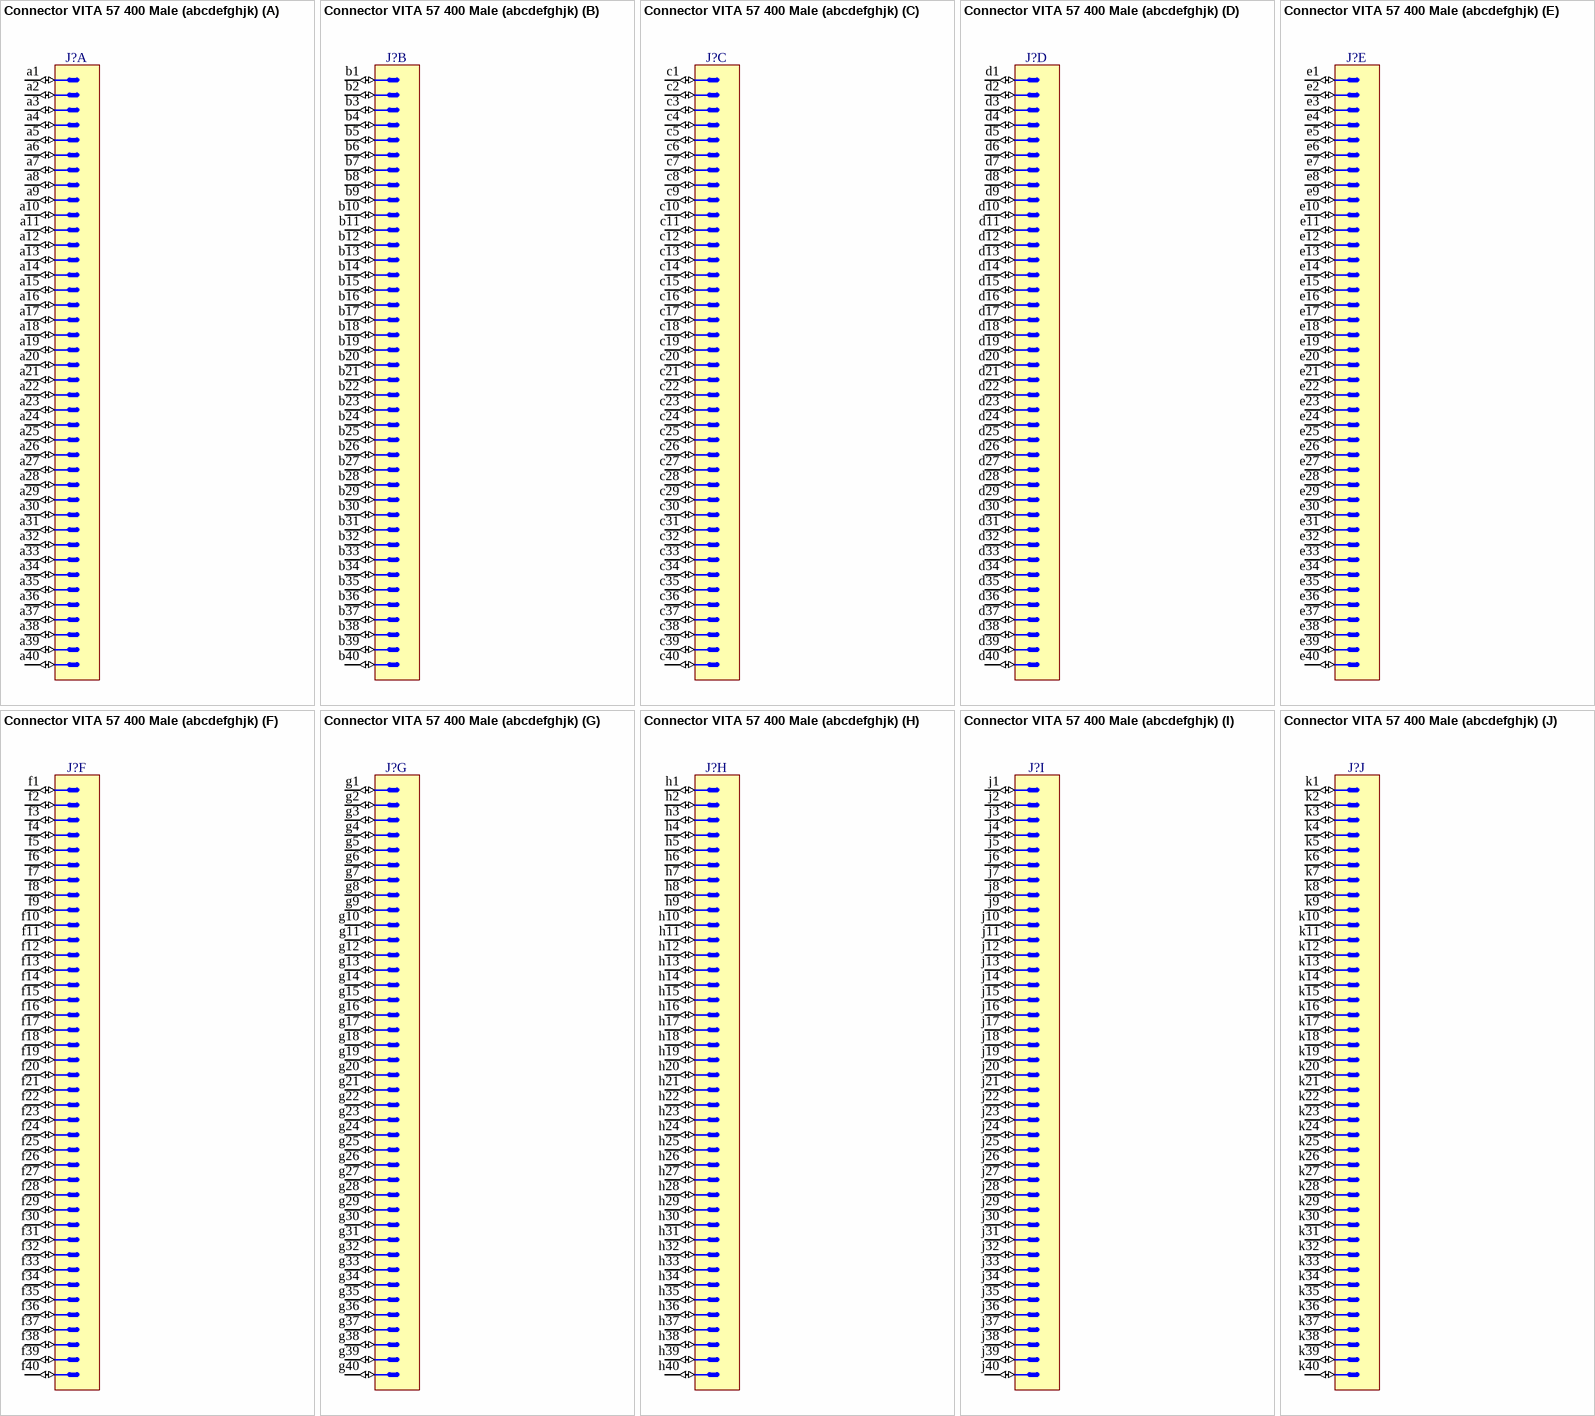
[diagram p3: symbol Connector VITA 57 400 Male (abcdefghjk)]

## Connector VITA 57 400 Male (abcdefghjk)
designator J?, comment VITA 57  (value not drawn)
Connector VITA 57, 400 Male contacts in 10 row abcdefghj; Part Number: SAMTEC_ASP-134488-01; Part Description: 400 contacts (10 rows abcdefghj) Surface Mount Male Connector, VITA 57 (MC-HPC-10); Manufacturer: SAMTEC; Manufacturer Part Number: ASP-134488-01; PressFit: No; Component Kind: Standard; Component Type: Standard; Footprint: SAMTEC_ASP-134488-01; Pin Count: 400; Family: VITA 57; Mounted: Yes; Socket: No; SMD: Yes; Status: None; ComponentHeight: 6.1mm; HelpURL: \\cern.ch\dfs\Applications\Altium\Datasheets\SAMTEC_ASP-134488-01.pdf; Author: CERN DEM JLC; CreateDate: 4/30/2009; LatestRevisionDate: 8/17/2009; Table: SAMTEC
footprint SAMTEC_ASP-134488-01 (Connector VITA 57, 400 Male contacts in 10 row abcdefghj)
part A pins: a1 (io), a2 (io), a3 (io), a4 (io), a5 (io), a6 (io), a7 (io), a8 (io), a9 (io), a10 (io), a11 (io), a12 (io), a13 (io), a14 (io), a15 (io), a16 (io), a17 (io), a18 (io), a19 (io), a20 (io), a21 (io), a22 (io), a23 (io), a24 (io), a25 (io), a26 (io), a27 (io), a28 (io), a29 (io), a30 (io), a31 (io), a32 (io), a33 (io), a34 (io), a35 (io), a36 (io), a37 (io), a38 (io), a39 (io), a40 (io)
part B pins: b1 (io), b2 (io), b3 (io), b4 (io), b5 (io), b6 (io), b7 (io), b8 (io), b9 (io), b10 (io), b11 (io), b12 (io), b13 (io), b14 (io), b15 (io), b16 (io), b17 (io), b18 (io), b19 (io), b20 (io), b21 (io), b22 (io), b23 (io), b24 (io), b25 (io), b26 (io), b27 (io), b28 (io), b29 (io), b30 (io), b31 (io), b32 (io), b33 (io), b34 (io), b35 (io), b36 (io), b37 (io), b38 (io), b39 (io), b40 (io)
part C pins: c1 (io), c2 (io), c3 (io), c4 (io), c5 (io), c6 (io), c7 (io), c8 (io), c9 (io), c10 (io), c11 (io), c12 (io), c13 (io), c14 (io), c15 (io), c16 (io), c17 (io), c18 (io), c19 (io), c20 (io), c21 (io), c22 (io), c23 (io), c24 (io), c25 (io), c26 (io), c27 (io), c28 (io), c29 (io), c30 (io), c31 (io), c32 (io), c33 (io), c34 (io), c35 (io), c36 (io), c37 (io), c38 (io), c39 (io), c40 (io)
part D pins: d1 (io), d2 (io), d3 (io), d4 (io), d5 (io), d6 (io), d7 (io), d8 (io), d9 (io), d10 (io), d11 (io), d12 (io), d13 (io), d14 (io), d15 (io), d16 (io), d17 (io), d18 (io), d19 (io), d20 (io), d21 (io), d22 (io), d23 (io), d24 (io), d25 (io), d26 (io), d27 (io), d28 (io), d29 (io), d30 (io), d31 (io), d32 (io), d33 (io), d34 (io), d35 (io), d36 (io), d37 (io), d38 (io), d39 (io), d40 (io)
part E pins: e1 (io), e2 (io), e3 (io), e4 (io), e5 (io), e6 (io), e7 (io), e8 (io), e9 (io), e10 (io), e11 (io), e12 (io), e13 (io), e14 (io), e15 (io), e16 (io), e17 (io), e18 (io), e19 (io), e20 (io), e21 (io), e22 (io), e23 (io), e24 (io), e25 (io), e26 (io), e27 (io), e28 (io), e29 (io), e30 (io), e31 (io), e32 (io), e33 (io), e34 (io), e35 (io), e36 (io), e37 (io), e38 (io), e39 (io), e40 (io)
part F pins: f1 (io), f2 (io), f3 (io), f4 (io), f5 (io), f6 (io), f7 (io), f8 (io), f9 (io), f10 (io), f11 (io), f12 (io), f13 (io), f14 (io), f15 (io), f16 (io), f17 (io), f18 (io), f19 (io), f20 (io), f21 (io), f22 (io), f23 (io), f24 (io), f25 (io), f26 (io), f27 (io), f28 (io), f29 (io), f30 (io), f31 (io), f32 (io), f33 (io), f34 (io), f35 (io), f36 (io), f37 (io), f38 (io), f39 (io), f40 (io)
part G pins: g1 (io), g2 (io), g3 (io), g4 (io), g5 (io), g6 (io), g7 (io), g8 (io), g9 (io), g10 (io), g11 (io), g12 (io), g13 (io), g14 (io), g15 (io), g16 (io), g17 (io), g18 (io), g19 (io), g20 (io), g21 (io), g22 (io), g23 (io), g24 (io), g25 (io), g26 (io), g27 (io), g28 (io), g29 (io), g30 (io), g31 (io), g32 (io), g33 (io), g34 (io), g35 (io), g36 (io), g37 (io), g38 (io), g39 (io), g40 (io)
part H pins: h1 (io), h2 (io), h3 (io), h4 (io), h5 (io), h6 (io), h7 (io), h8 (io), h9 (io), h10 (io), h11 (io), h12 (io), h13 (io), h14 (io), h15 (io), h16 (io), h17 (io), h18 (io), h19 (io), h20 (io), h21 (io), h22 (io), h23 (io), h24 (io), h25 (io), h26 (io), h27 (io), h28 (io), h29 (io), h30 (io), h31 (io), h32 (io), h33 (io), h34 (io), h35 (io), h36 (io), h37 (io), h38 (io), h39 (io), h40 (io)
part I pins: j1 (io), j2 (io), j3 (io), j4 (io), j5 (io), j6 (io), j7 (io), j8 (io), j9 (io), j10 (io), j11 (io), j12 (io), j13 (io), j14 (io), j15 (io), j16 (io), j17 (io), j18 (io), j19 (io), j20 (io), j21 (io), j22 (io), j23 (io), j24 (io), j25 (io), j26 (io), j27 (io), j28 (io), j29 (io), j30 (io), j31 (io), j32 (io), j33 (io), j34 (io), j35 (io), j36 (io), j37 (io), j38 (io), j39 (io), j40 (io)
part J pins: k1 (io), k2 (io), k3 (io), k4 (io), k5 (io), k6 (io), k7 (io), k8 (io), k9 (io), k10 (io), k11 (io), k12 (io), k13 (io), k14 (io), k15 (io), k16 (io), k17 (io), k18 (io), k19 (io), k20 (io), k21 (io), k22 (io), k23 (io), k24 (io), k25 (io), k26 (io), k27 (io), k28 (io), k29 (io), k30 (io), k31 (io), k32 (io), k33 (io), k34 (io), k35 (io), k36 (io), k37 (io), k38 (io), k39 (io), k40 (io)

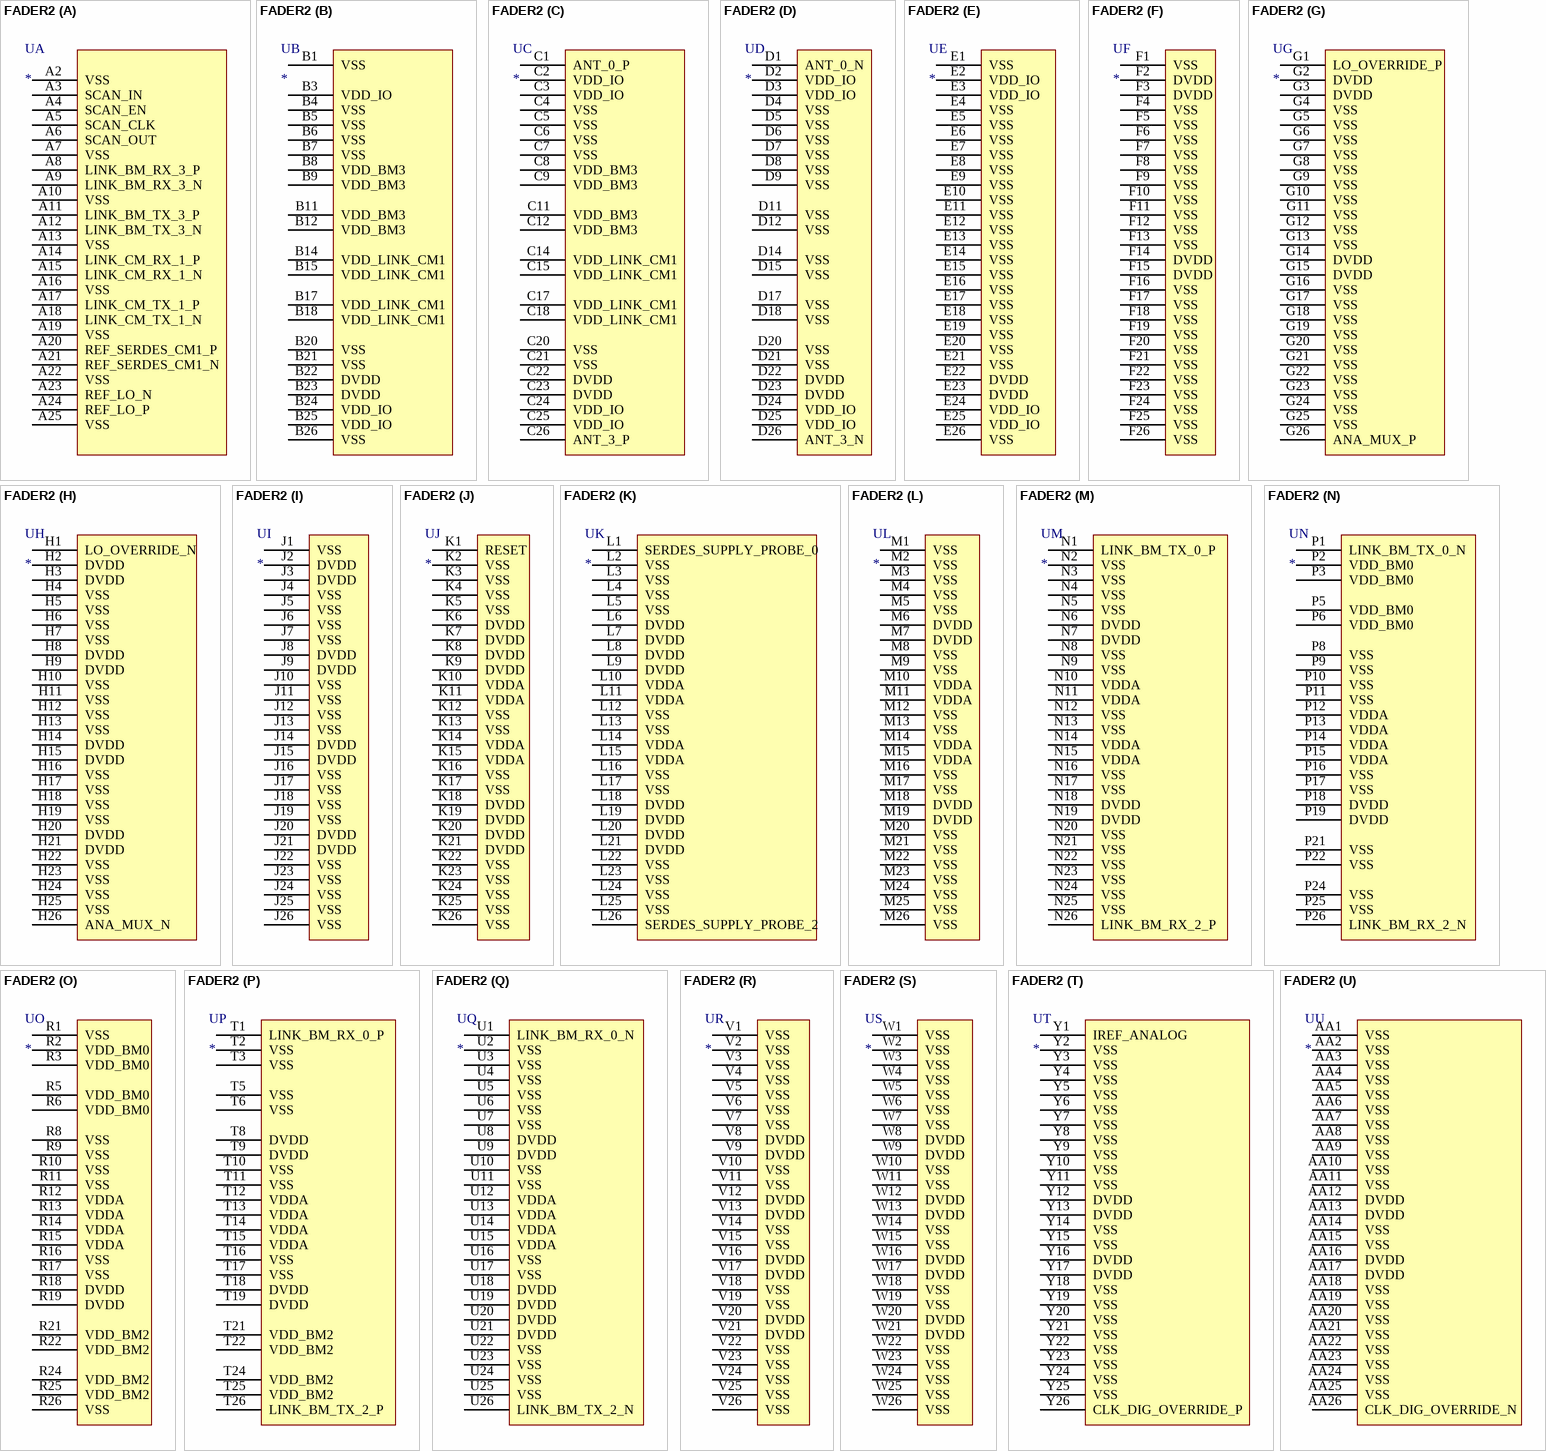
[diagram p4: symbol FADER2]

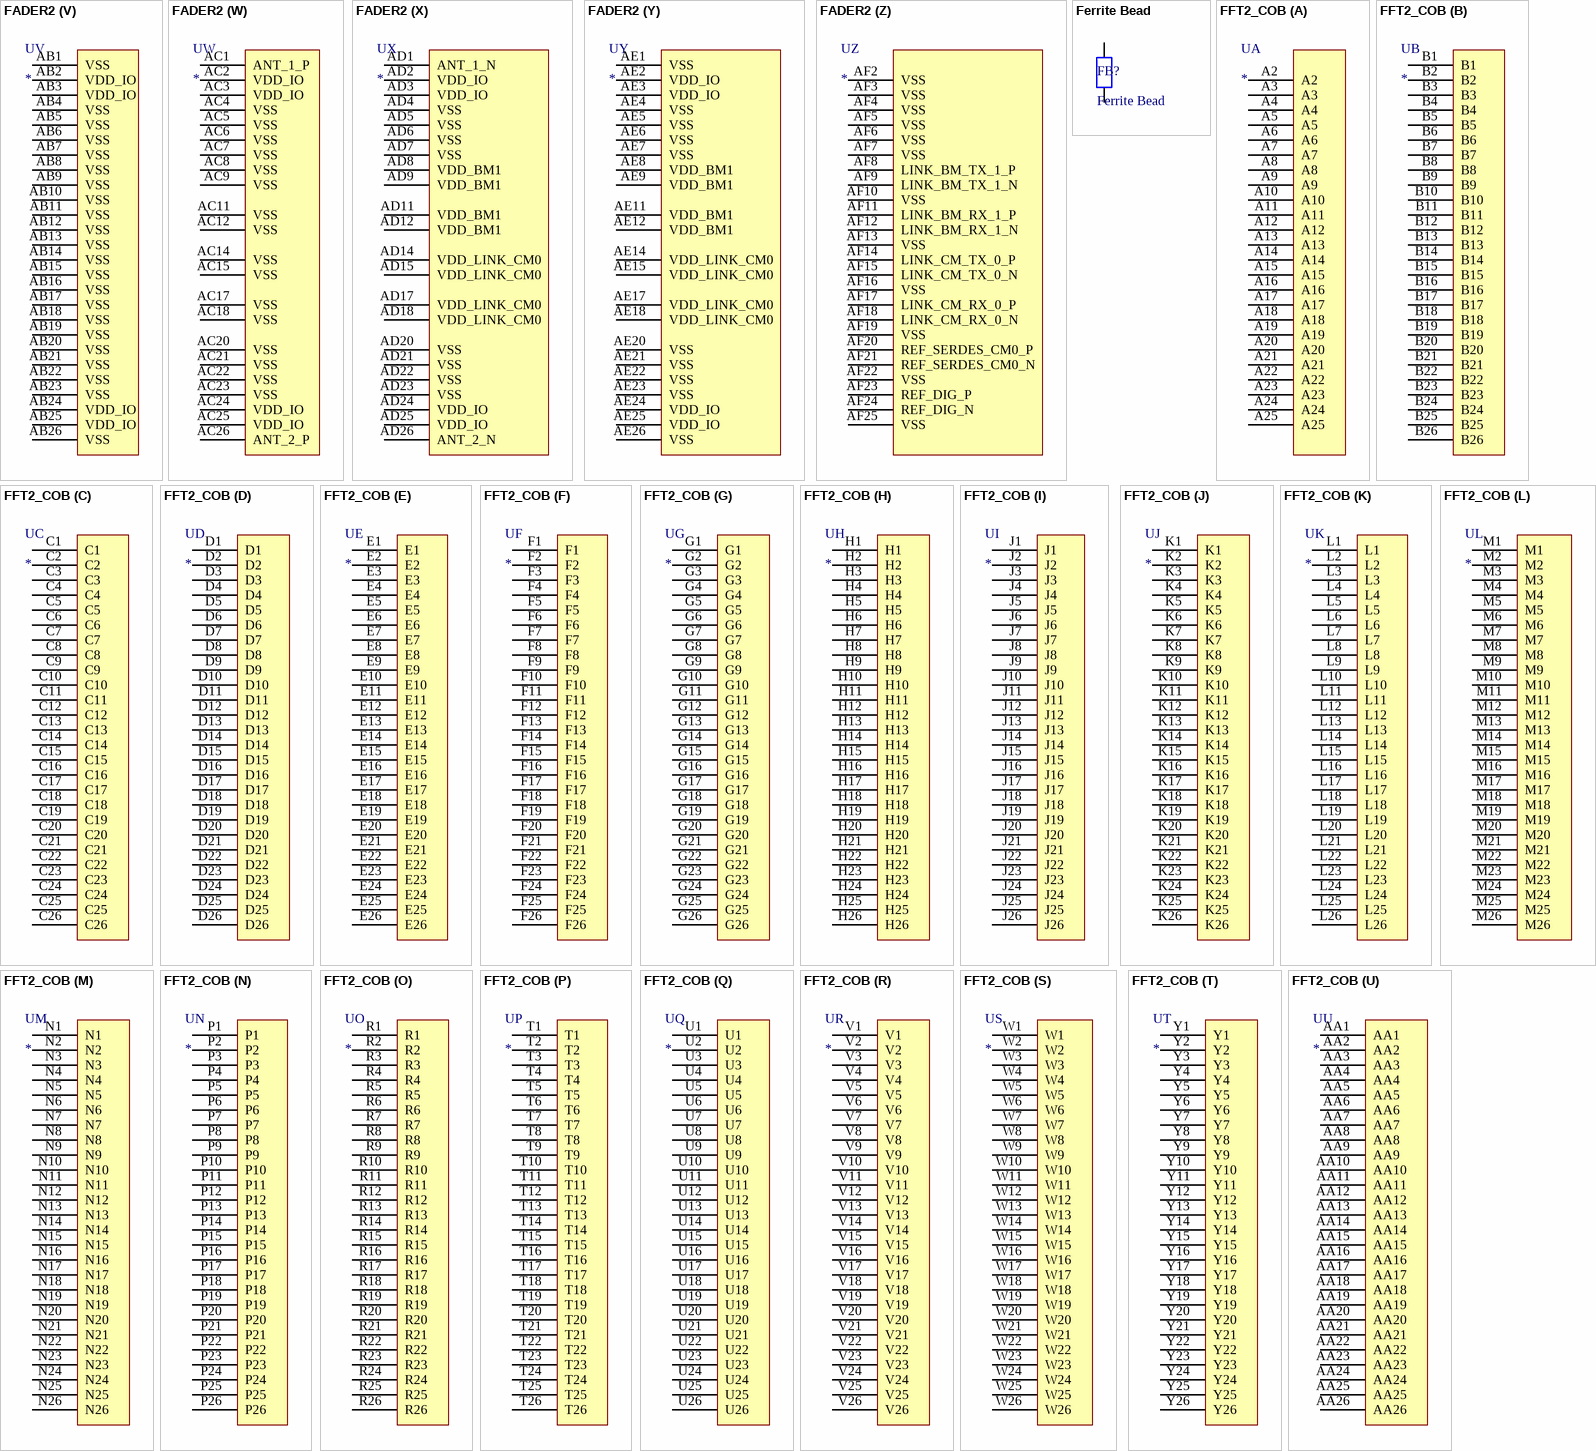
[diagram p5: symbols FADER2 to FFT2_COB]

## FADER2
designator U
Flexible Array of Digital Efficient Radios (FADER2) chip, 26 x 26 BGA
footprint FADER2_75UM
part A pins: A2 VSS, A3 SCAN_IN, A4 SCAN_EN, A5 SCAN_CLK, A6 SCAN_OUT, A7 VSS, A8 LINK_BM_RX_3_P, A9 LINK_BM_RX_3_N, A10 VSS, A11 LINK_BM_TX_3_P, A12 LINK_BM_TX_3_N, A13 VSS, A14 LINK_CM_RX_1_P, A15 LINK_CM_RX_1_N, A16 VSS, A17 LINK_CM_TX_1_P, A18 LINK_CM_TX_1_N, A19 VSS, A20 REF_SERDES_CM1_P, A21 REF_SERDES_CM1_N, A22 VSS, A23 REF_LO_N, A24 REF_LO_P, A25 VSS
part B pins: B1 VSS, B3 VDD_IO, B4 VSS, B5 VSS, B6 VSS, B7 VSS, B8 VDD_BM3, B9 VDD_BM3, B11 VDD_BM3, B12 VDD_BM3, B14 VDD_LINK_CM1, B15 VDD_LINK_CM1, B17 VDD_LINK_CM1, B18 VDD_LINK_CM1, B20 VSS, B21 VSS, B22 DVDD, B23 DVDD, B24 VDD_IO, B25 VDD_IO, B26 VSS
part C pins: C1 ANT_0_P, C2 VDD_IO, C3 VDD_IO, C4 VSS, C5 VSS, C6 VSS, C7 VSS, C8 VDD_BM3, C9 VDD_BM3, C11 VDD_BM3, C12 VDD_BM3, C14 VDD_LINK_CM1, C15 VDD_LINK_CM1, C17 VDD_LINK_CM1, C18 VDD_LINK_CM1, C20 VSS, C21 VSS, C22 DVDD, C23 DVDD, C24 VDD_IO, C25 VDD_IO, C26 ANT_3_P
part D pins: D1 ANT_0_N, D2 VDD_IO, D3 VDD_IO, D4 VSS, D5 VSS, D6 VSS, D7 VSS, D8 VSS, D9 VSS, D11 VSS, D12 VSS, D14 VSS, D15 VSS, D17 VSS, D18 VSS, D20 VSS, D21 VSS, D22 DVDD, D23 DVDD, D24 VDD_IO, D25 VDD_IO, D26 ANT_3_N
part E pins: E1 VSS, E2 VDD_IO, E3 VDD_IO, E4 VSS, E5 VSS, E6 VSS, E7 VSS, E8 VSS, E9 VSS, E10 VSS, E11 VSS, E12 VSS, E13 VSS, E14 VSS, E15 VSS, E16 VSS, E17 VSS, E18 VSS, E19 VSS, E20 VSS, E21 VSS, E22 DVDD, E23 DVDD, E24 VDD_IO, E25 VDD_IO, E26 VSS
part F pins: F1 VSS, F2 DVDD, F3 DVDD, F4 VSS, F5 VSS, F6 VSS, F7 VSS, F8 VSS, F9 VSS, F10 VSS, F11 VSS, F12 VSS, F13 VSS, F14 DVDD, F15 DVDD, F16 VSS, F17 VSS, F18 VSS, F19 VSS, F20 VSS, F21 VSS, F22 VSS, F23 VSS, F24 VSS, F25 VSS, F26 VSS
part G pins: G1 LO_OVERRIDE_P, G2 DVDD, G3 DVDD, G4 VSS, G5 VSS, G6 VSS, G7 VSS, G8 VSS, G9 VSS, G10 VSS, G11 VSS, G12 VSS, G13 VSS, G14 DVDD, G15 DVDD, G16 VSS, G17 VSS, G18 VSS, G19 VSS, G20 VSS, G21 VSS, G22 VSS, G23 VSS, G24 VSS, G25 VSS, G26 ANA_MUX_P
part H pins: H1 LO_OVERRIDE_N, H2 DVDD, H3 DVDD, H4 VSS, H5 VSS, H6 VSS, H7 VSS, H8 DVDD, H9 DVDD, H10 VSS, H11 VSS, H12 VSS, H13 VSS, H14 DVDD, H15 DVDD, H16 VSS, H17 VSS, H18 VSS, H19 VSS, H20 DVDD, H21 DVDD, H22 VSS, H23 VSS, H24 VSS, H25 VSS, H26 ANA_MUX_N
part I pins: J1 VSS, J2 DVDD, J3 DVDD, J4 VSS, J5 VSS, J6 VSS, J7 VSS, J8 DVDD, J9 DVDD, J10 VSS, J11 VSS, J12 VSS, J13 VSS, J14 DVDD, J15 DVDD, J16 VSS, J17 VSS, J18 VSS, J19 VSS, J20 DVDD, J21 DVDD, J22 VSS, J23 VSS, J24 VSS, J25 VSS, J26 VSS
part J pins: K1 RESET, K2 VSS, K3 VSS, K4 VSS, K5 VSS, K6 DVDD, K7 DVDD, K8 DVDD, K9 DVDD, K10 VDDA, K11 VDDA, K12 VSS, K13 VSS, K14 VDDA, K15 VDDA, K16 VSS, K17 VSS, K18 DVDD, K19 DVDD, K20 DVDD, K21 DVDD, K22 VSS, K23 VSS, K24 VSS, K25 VSS, K26 VSS
part K pins: L1 SERDES_SUPPLY_PROBE_0, L2 VSS, L3 VSS, L4 VSS, L5 VSS, L6 DVDD, L7 DVDD, L8 DVDD, L9 DVDD, L10 VDDA, L11 VDDA, L12 VSS, L13 VSS, L14 VDDA, L15 VDDA, L16 VSS, L17 VSS, L18 DVDD, L19 DVDD, L20 DVDD, L21 DVDD, L22 VSS, L23 VSS, L24 VSS, L25 VSS, L26 SERDES_SUPPLY_PROBE_2
part L pins: M1 VSS, M2 VSS, M3 VSS, M4 VSS, M5 VSS, M6 DVDD, M7 DVDD, M8 VSS, M9 VSS, M10 VDDA, M11 VDDA, M12 VSS, M13 VSS, M14 VDDA, M15 VDDA, M16 VSS, M17 VSS, M18 DVDD, M19 DVDD, M20 VSS, M21 VSS, M22 VSS, M23 VSS, M24 VSS, M25 VSS, M26 VSS
part M pins: N1 LINK_BM_TX_0_P, N2 VSS, N3 VSS, N4 VSS, N5 VSS, N6 DVDD, N7 DVDD, N8 VSS, N9 VSS, N10 VDDA, N11 VDDA, N12 VSS, N13 VSS, N14 VDDA, N15 VDDA, N16 VSS, N17 VSS, N18 DVDD, N19 DVDD, N20 VSS, N21 VSS, N22 VSS, N23 VSS, N24 VSS, N25 VSS, N26 LINK_BM_RX_2_P
part N pins: P1 LINK_BM_TX_0_N, P2 VDD_BM0, P3 VDD_BM0, P5 VDD_BM0, P6 VDD_BM0, P8 VSS, P9 VSS, P10 VSS, P11 VSS, P12 VDDA, P13 VDDA, P14 VDDA, P15 VDDA, P16 VSS, P17 VSS, P18 DVDD, P19 DVDD, P21 VSS, P22 VSS, P24 VSS, P25 VSS, P26 LINK_BM_RX_2_N
part O pins: R1 VSS, R2 VDD_BM0, R3 VDD_BM0, R5 VDD_BM0, R6 VDD_BM0, R8 VSS, R9 VSS, R10 VSS, R11 VSS, R12 VDDA, R13 VDDA, R14 VDDA, R15 VDDA, R16 VSS, R17 VSS, R18 DVDD, R19 DVDD, R21 VDD_BM2, R22 VDD_BM2, R24 VDD_BM2, R25 VDD_BM2, R26 VSS
part P pins: T1 LINK_BM_RX_0_P, T2 VSS, T3 VSS, T5 VSS, T6 VSS, T8 DVDD, T9 DVDD, T10 VSS, T11 VSS, T12 VDDA, T13 VDDA, T14 VDDA, T15 VDDA, T16 VSS, T17 VSS, T18 DVDD, T19 DVDD, T21 VDD_BM2, T22 VDD_BM2, T24 VDD_BM2, T25 VDD_BM2, T26 LINK_BM_TX_2_P
part Q pins: U1 LINK_BM_RX_0_N, U2 VSS, U3 VSS, U4 VSS, U5 VSS, U6 VSS, U7 VSS, U8 DVDD, U9 DVDD, U10 VSS, U11 VSS, U12 VDDA, U13 VDDA, U14 VDDA, U15 VDDA, U16 VSS, U17 VSS, U18 DVDD, U19 DVDD, U20 DVDD, U21 DVDD, U22 VSS, U23 VSS, U24 VSS, U25 VSS, U26 LINK_BM_TX_2_N
part R pins: V1 VSS, V2 VSS, V3 VSS, V4 VSS, V5 VSS, V6 VSS, V7 VSS, V8 DVDD, V9 DVDD, V10 VSS, V11 VSS, V12 DVDD, V13 DVDD, V14 VSS, V15 VSS, V16 DVDD, V17 DVDD, V18 VSS, V19 VSS, V20 DVDD, V21 DVDD, V22 VSS, V23 VSS, V24 VSS, V25 VSS, V26 VSS
part S pins: W1 VSS, W2 VSS, W3 VSS, W4 VSS, W5 VSS, W6 VSS, W7 VSS, W8 DVDD, W9 DVDD, W10 VSS, W11 VSS, W12 DVDD, W13 DVDD, W14 VSS, W15 VSS, W16 DVDD, W17 DVDD, W18 VSS, W19 VSS, W20 DVDD, W21 DVDD, W22 VSS, W23 VSS, W24 VSS, W25 VSS, W26 VSS
part T pins: Y1 IREF_ANALOG, Y2 VSS, Y3 VSS, Y4 VSS, Y5 VSS, Y6 VSS, Y7 VSS, Y8 VSS, Y9 VSS, Y10 VSS, Y11 VSS, Y12 DVDD, Y13 DVDD, Y14 VSS, Y15 VSS, Y16 DVDD, Y17 DVDD, Y18 VSS, Y19 VSS, Y20 VSS, Y21 VSS, Y22 VSS, Y23 VSS, Y24 VSS, Y25 VSS, Y26 CLK_DIG_OVERRIDE_P
part U pins: AA1 VSS, AA2 VSS, AA3 VSS, AA4 VSS, AA5 VSS, AA6 VSS, AA7 VSS, AA8 VSS, AA9 VSS, AA10 VSS, AA11 VSS, AA12 DVDD, AA13 DVDD, AA14 VSS, AA15 VSS, AA16 DVDD, AA17 DVDD, AA18 VSS, AA19 VSS, AA20 VSS, AA21 VSS, AA22 VSS, AA23 VSS, AA24 VSS, AA25 VSS, AA26 CLK_DIG_OVERRIDE_N
part V pins: AB1 VSS, AB2 VDD_IO, AB3 VDD_IO, AB4 VSS, AB5 VSS, AB6 VSS, AB7 VSS, AB8 VSS, AB9 VSS, AB10 VSS, AB11 VSS, AB12 VSS, AB13 VSS, AB14 VSS, AB15 VSS, AB16 VSS, AB17 VSS, AB18 VSS, AB19 VSS, AB20 VSS, AB21 VSS, AB22 VSS, AB23 VSS, AB24 VDD_IO, AB25 VDD_IO, AB26 VSS
part W pins: AC1 ANT_1_P, AC2 VDD_IO, AC3 VDD_IO, AC4 VSS, AC5 VSS, AC6 VSS, AC7 VSS, AC8 VSS, AC9 VSS, AC11 VSS, AC12 VSS, AC14 VSS, AC15 VSS, AC17 VSS, AC18 VSS, AC20 VSS, AC21 VSS, AC22 VSS, AC23 VSS, AC24 VDD_IO, AC25 VDD_IO, AC26 ANT_2_P
part X pins: AD1 ANT_1_N, AD2 VDD_IO, AD3 VDD_IO, AD4 VSS, AD5 VSS, AD6 VSS, AD7 VSS, AD8 VDD_BM1, AD9 VDD_BM1, AD11 VDD_BM1, AD12 VDD_BM1, AD14 VDD_LINK_CM0, AD15 VDD_LINK_CM0, AD17 VDD_LINK_CM0, AD18 VDD_LINK_CM0, AD20 VSS, AD21 VSS, AD22 VSS, AD23 VSS, AD24 VDD_IO, AD25 VDD_IO, AD26 ANT_2_N
part Y pins: AE1 VSS, AE2 VDD_IO, AE3 VDD_IO, AE4 VSS, AE5 VSS, AE6 VSS, AE7 VSS, AE8 VDD_BM1, AE9 VDD_BM1, AE11 VDD_BM1, AE12 VDD_BM1, AE14 VDD_LINK_CM0, AE15 VDD_LINK_CM0, AE17 VDD_LINK_CM0, AE18 VDD_LINK_CM0, AE20 VSS, AE21 VSS, AE22 VSS, AE23 VSS, AE24 VDD_IO, AE25 VDD_IO, AE26 VSS
part Z pins: AF2 VSS, AF3 VSS, AF4 VSS, AF5 VSS, AF6 VSS, AF7 VSS, AF8 LINK_BM_TX_1_P, AF9 LINK_BM_TX_1_N, AF10 VSS, AF11 LINK_BM_RX_1_P, AF12 LINK_BM_RX_1_N, AF13 VSS, AF14 LINK_CM_TX_0_P, AF15 LINK_CM_TX_0_N, AF16 VSS, AF17 LINK_CM_RX_0_P, AF18 LINK_CM_RX_0_N, AF19 VSS, AF20 REF_SERDES_CM0_P, AF21 REF_SERDES_CM0_N, AF22 VSS, AF23 REF_DIG_P, AF24 REF_DIG_N, AF25 VSS

## Ferrite Bead
designator FB?
Ferrite Bead 300 Ohms @ 100MHz 1 Signal Line 0603 (1608 Metric) 2A 150mOhm; Manufacturer: Wurth; Manufacturer ID: 742792641; Impedance: 300 Ohm @ 100MHz; Digikey ID: 732-1592-1-ND; Current Rating: 2A; Package: 0603; Supplier 1: Digi-Key; Supplier Part Number 1: 732-1592-1-ND
footprint FER_SMD-0603 (Ferrite Bead, 2-Leads, Body 1.6x0.8mm)
pins: 1, 2

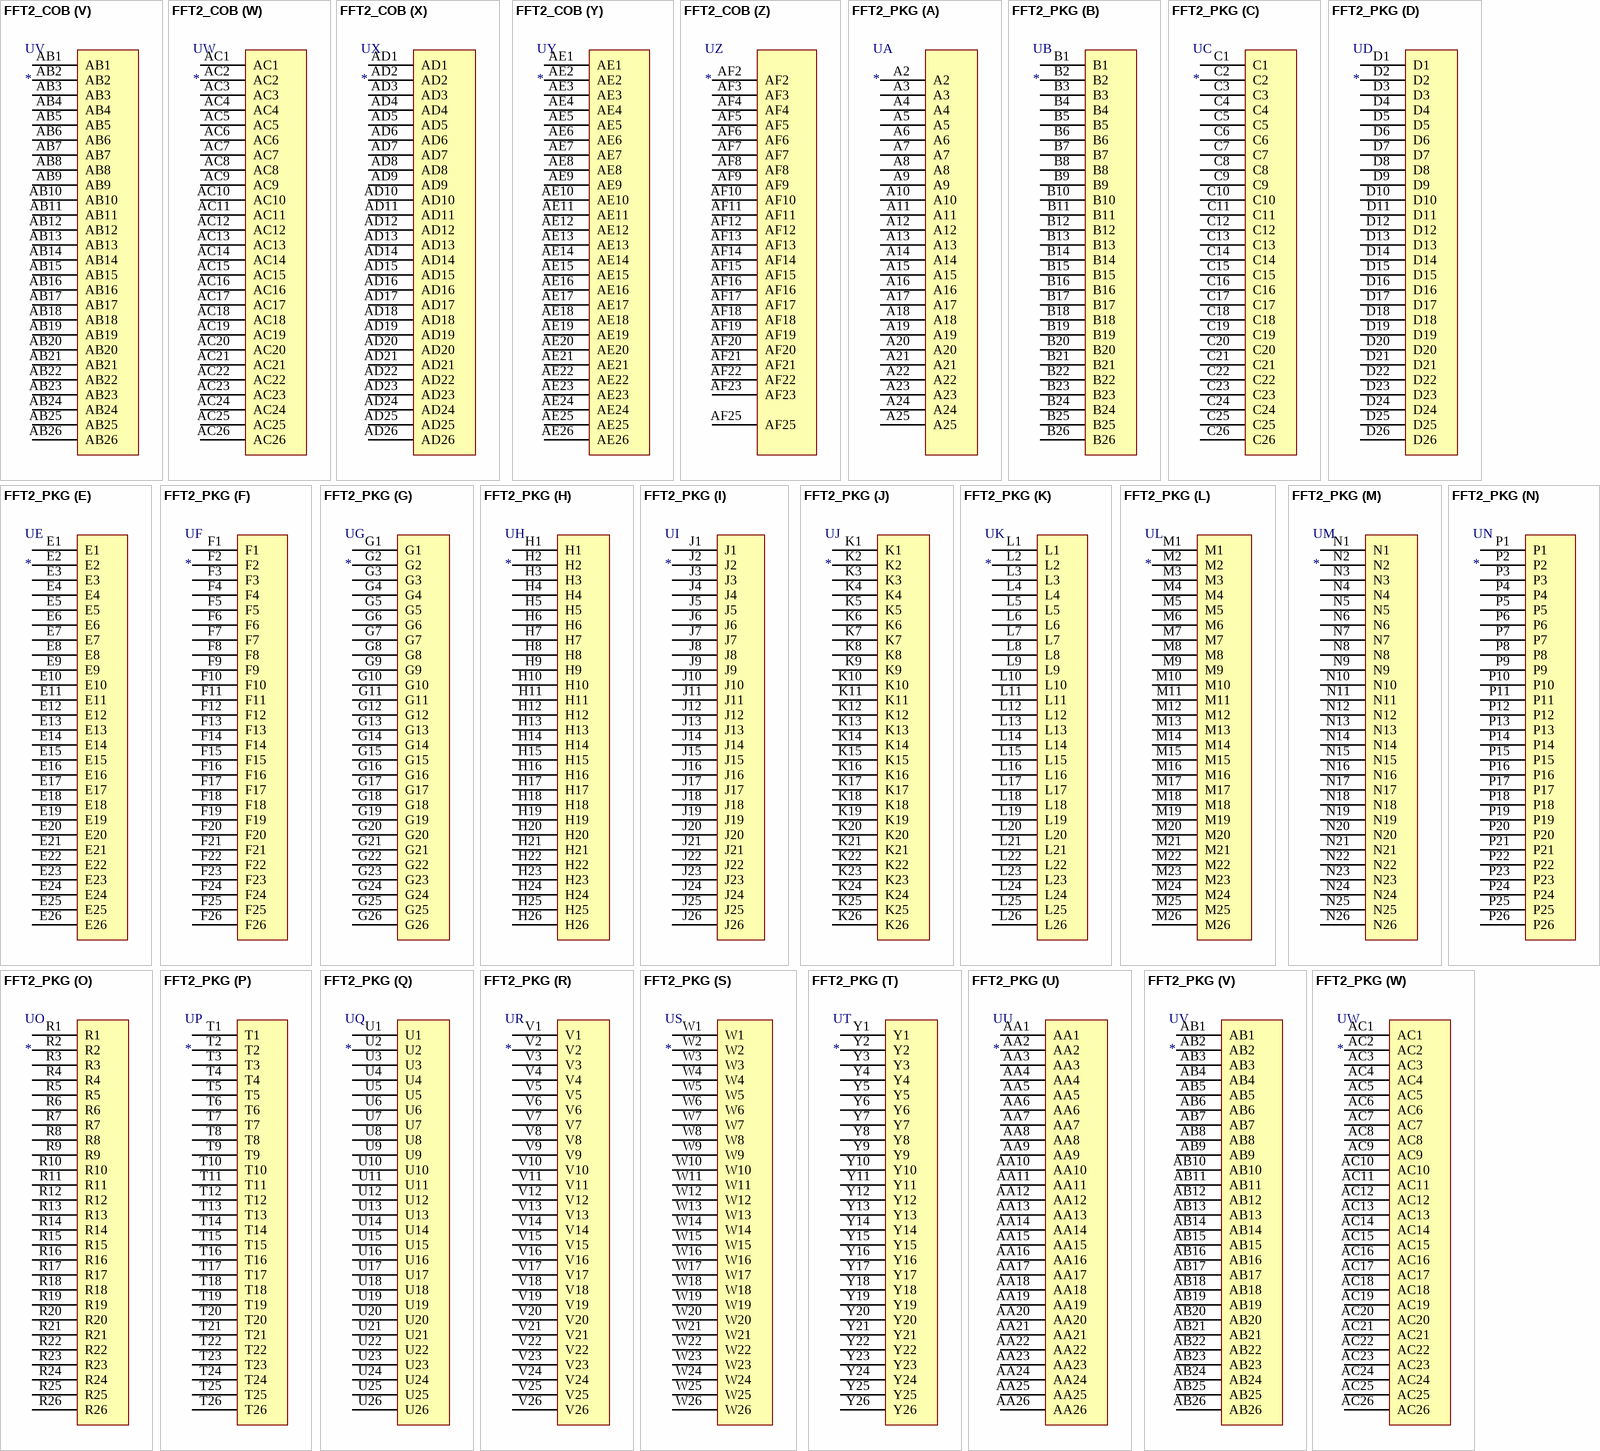
[diagram p6: symbols FFT2_COB to FFT2_PKG]

## FFT2_COB
designator U
footprint FFT2CHIP_2p5mil
part A pins: A2, A3, A4, A5, A6, A7, A8, A9, A10, A11, A12, A13, A14, A15, A16, A17, A18, A19, A20, A21, A22, A23, A24, A25
part B pins: B1, B2, B3, B4, B5, B6, B7, B8, B9, B10, B11, B12, B13, B14, B15, B16, B17, B18, B19, B20, B21, B22, B23, B24, B25, B26
part C pins: C1, C2, C3, C4, C5, C6, C7, C8, C9, C10, C11, C12, C13, C14, C15, C16, C17, C18, C19, C20, C21, C22, C23, C24, C25, C26
part D pins: D1, D2, D3, D4, D5, D6, D7, D8, D9, D10, D11, D12, D13, D14, D15, D16, D17, D18, D19, D20, D21, D22, D23, D24, D25, D26
part E pins: E1, E2, E3, E4, E5, E6, E7, E8, E9, E10, E11, E12, E13, E14, E15, E16, E17, E18, E19, E20, E21, E22, E23, E24, E25, E26
part F pins: F1, F2, F3, F4, F5, F6, F7, F8, F9, F10, F11, F12, F13, F14, F15, F16, F17, F18, F19, F20, F21, F22, F23, F24, F25, F26
part G pins: G1, G2, G3, G4, G5, G6, G7, G8, G9, G10, G11, G12, G13, G14, G15, G16, G17, G18, G19, G20, G21, G22, G23, G24, G25, G26
part H pins: H1, H2, H3, H4, H5, H6, H7, H8, H9, H10, H11, H12, H13, H14, H15, H16, H17, H18, H19, H20, H21, H22, H23, H24, H25, H26
part I pins: J1, J2, J3, J4, J5, J6, J7, J8, J9, J10, J11, J12, J13, J14, J15, J16, J17, J18, J19, J20, J21, J22, J23, J24, J25, J26
part J pins: K1, K2, K3, K4, K5, K6, K7, K8, K9, K10, K11, K12, K13, K14, K15, K16, K17, K18, K19, K20, K21, K22, K23, K24, K25, K26
part K pins: L1, L2, L3, L4, L5, L6, L7, L8, L9, L10, L11, L12, L13, L14, L15, L16, L17, L18, L19, L20, L21, L22, L23, L24, L25, L26
part L pins: M1, M2, M3, M4, M5, M6, M7, M8, M9, M10, M11, M12, M13, M14, M15, M16, M17, M18, M19, M20, M21, M22, M23, M24, M25, M26
part M pins: N1, N2, N3, N4, N5, N6, N7, N8, N9, N10, N11, N12, N13, N14, N15, N16, N17, N18, N19, N20, N21, N22, N23, N24, N25, N26
part N pins: P1, P2, P3, P4, P5, P6, P7, P8, P9, P10, P11, P12, P13, P14, P15, P16, P17, P18, P19, P20, P21, P22, P23, P24, P25, P26
part O pins: R1, R2, R3, R4, R5, R6, R7, R8, R9, R10, R11, R12, R13, R14, R15, R16, R17, R18, R19, R20, R21, R22, R23, R24, R25, R26
part P pins: T1, T2, T3, T4, T5, T6, T7, T8, T9, T10, T11, T12, T13, T14, T15, T16, T17, T18, T19, T20, T21, T22, T23, T24, T25, T26
part Q pins: U1, U2, U3, U4, U5, U6, U7, U8, U9, U10, U11, U12, U13, U14, U15, U16, U17, U18, U19, U20, U21, U22, U23, U24, U25, U26
part R pins: V1, V2, V3, V4, V5, V6, V7, V8, V9, V10, V11, V12, V13, V14, V15, V16, V17, V18, V19, V20, V21, V22, V23, V24, V25, V26
part S pins: W1, W2, W3, W4, W5, W6, W7, W8, W9, W10, W11, W12, W13, W14, W15, W16, W17, W18, W19, W20, W21, W22, W23, W24, W25, W26
part T pins: Y1, Y2, Y3, Y4, Y5, Y6, Y7, Y8, Y9, Y10, Y11, Y12, Y13, Y14, Y15, Y16, Y17, Y18, Y19, Y20, Y21, Y22, Y23, Y24, Y25, Y26
part U pins: AA1, AA2, AA3, AA4, AA5, AA6, AA7, AA8, AA9, AA10, AA11, AA12, AA13, AA14, AA15, AA16, AA17, AA18, AA19, AA20, AA21, AA22, AA23, AA24, AA25, AA26
part V pins: AB1, AB2, AB3, AB4, AB5, AB6, AB7, AB8, AB9, AB10, AB11, AB12, AB13, AB14, AB15, AB16, AB17, AB18, AB19, AB20, AB21, AB22, AB23, AB24, AB25, AB26
part W pins: AC1, AC2, AC3, AC4, AC5, AC6, AC7, AC8, AC9, AC10, AC11, AC12, AC13, AC14, AC15, AC16, AC17, AC18, AC19, AC20, AC21, AC22, AC23, AC24, AC25, AC26
part X pins: AD1, AD2, AD3, AD4, AD5, AD6, AD7, AD8, AD9, AD10, AD11, AD12, AD13, AD14, AD15, AD16, AD17, AD18, AD19, AD20, AD21, AD22, AD23, AD24, AD25, AD26
part Y pins: AE1, AE2, AE3, AE4, AE5, AE6, AE7, AE8, AE9, AE10, AE11, AE12, AE13, AE14, AE15, AE16, AE17, AE18, AE19, AE20, AE21, AE22, AE23, AE24, AE25, AE26
part Z pins: AF2, AF3, AF4, AF5, AF6, AF7, AF8, AF9, AF10, AF11, AF12, AF13, AF14, AF15, AF16, AF17, AF18, AF19, AF20, AF21, AF22, AF23, AF25

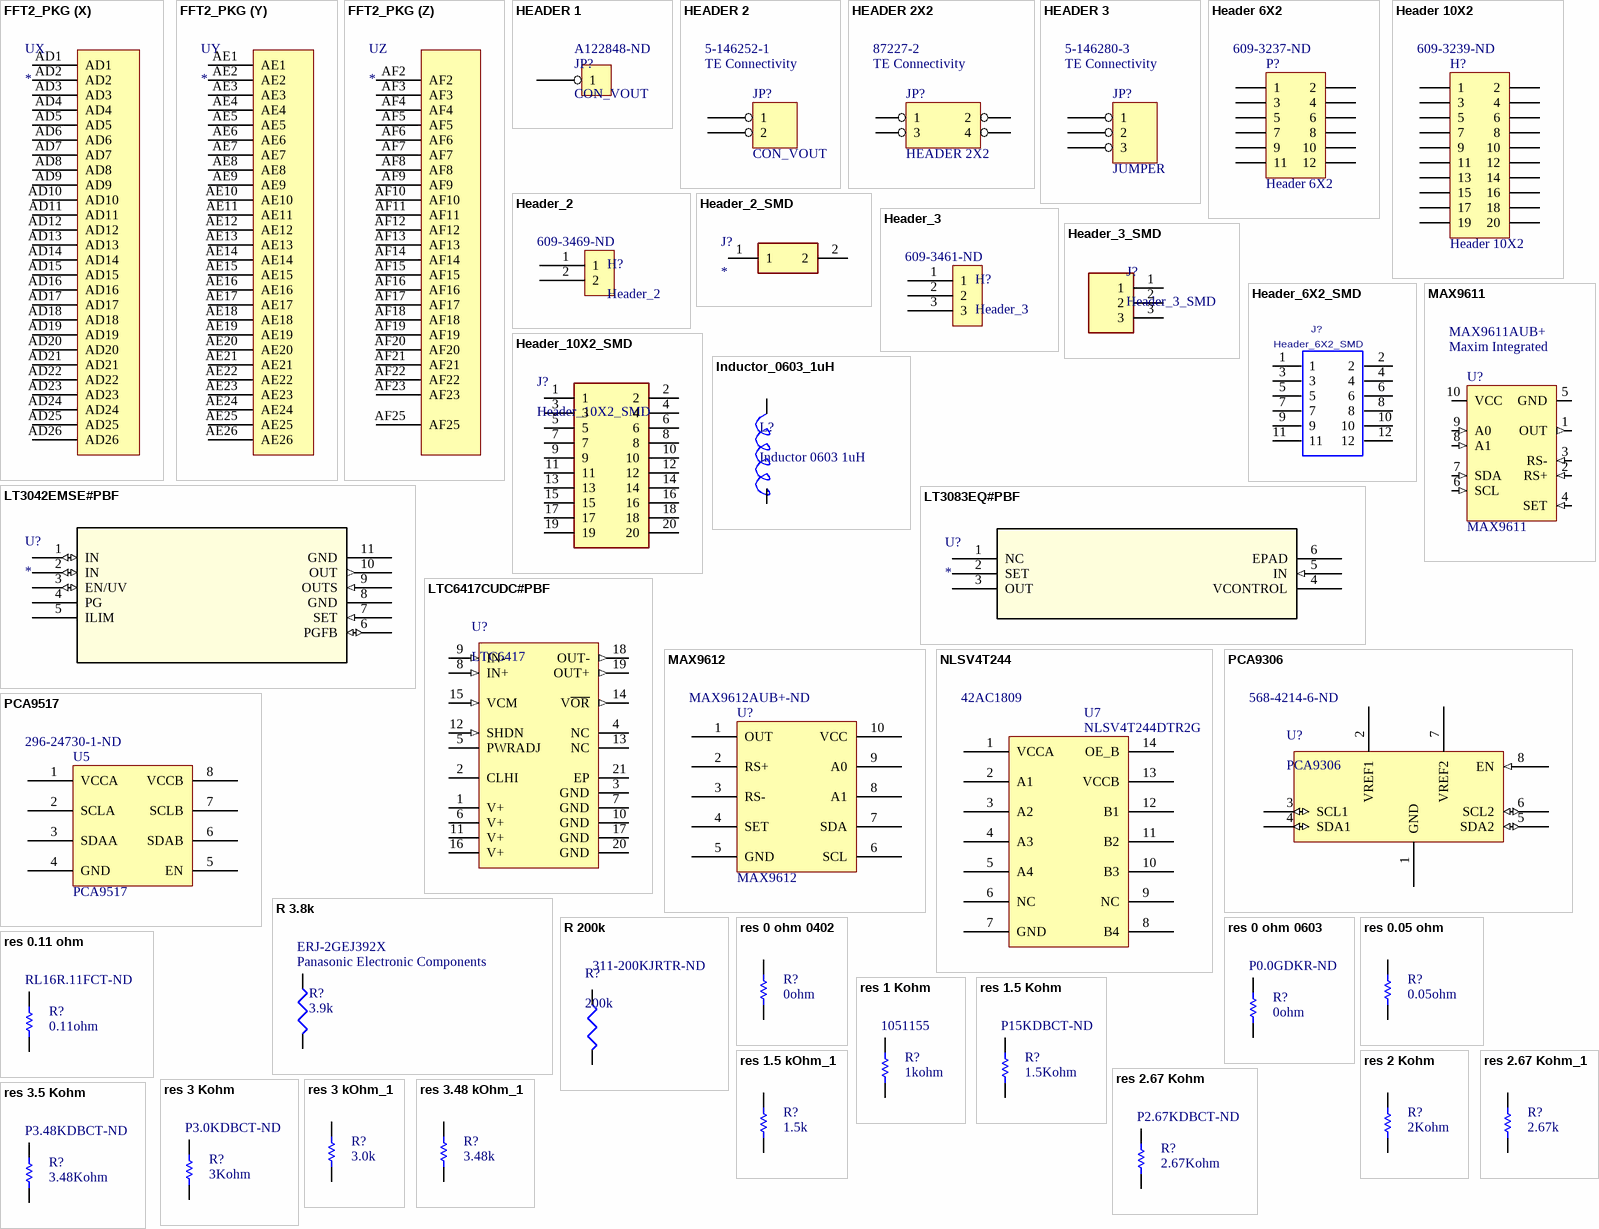
[diagram p7: symbols FFT2_PKG to res 3.48 kOhm_1]

## FFT2_PKG
designator U
footprint FFT2CHIP_PKG
part A pins: A2, A3, A4, A5, A6, A7, A8, A9, A10, A11, A12, A13, A14, A15, A16, A17, A18, A19, A20, A21, A22, A23, A24, A25
part B pins: B1, B2, B3, B4, B5, B6, B7, B8, B9, B10, B11, B12, B13, B14, B15, B16, B17, B18, B19, B20, B21, B22, B23, B24, B25, B26
part C pins: C1, C2, C3, C4, C5, C6, C7, C8, C9, C10, C11, C12, C13, C14, C15, C16, C17, C18, C19, C20, C21, C22, C23, C24, C25, C26
part D pins: D1, D2, D3, D4, D5, D6, D7, D8, D9, D10, D11, D12, D13, D14, D15, D16, D17, D18, D19, D20, D21, D22, D23, D24, D25, D26
part E pins: E1, E2, E3, E4, E5, E6, E7, E8, E9, E10, E11, E12, E13, E14, E15, E16, E17, E18, E19, E20, E21, E22, E23, E24, E25, E26
part F pins: F1, F2, F3, F4, F5, F6, F7, F8, F9, F10, F11, F12, F13, F14, F15, F16, F17, F18, F19, F20, F21, F22, F23, F24, F25, F26
part G pins: G1, G2, G3, G4, G5, G6, G7, G8, G9, G10, G11, G12, G13, G14, G15, G16, G17, G18, G19, G20, G21, G22, G23, G24, G25, G26
part H pins: H1, H2, H3, H4, H5, H6, H7, H8, H9, H10, H11, H12, H13, H14, H15, H16, H17, H18, H19, H20, H21, H22, H23, H24, H25, H26
part I pins: J1, J2, J3, J4, J5, J6, J7, J8, J9, J10, J11, J12, J13, J14, J15, J16, J17, J18, J19, J20, J21, J22, J23, J24, J25, J26
part J pins: K1, K2, K3, K4, K5, K6, K7, K8, K9, K10, K11, K12, K13, K14, K15, K16, K17, K18, K19, K20, K21, K22, K23, K24, K25, K26
part K pins: L1, L2, L3, L4, L5, L6, L7, L8, L9, L10, L11, L12, L13, L14, L15, L16, L17, L18, L19, L20, L21, L22, L23, L24, L25, L26
part L pins: M1, M2, M3, M4, M5, M6, M7, M8, M9, M10, M11, M12, M13, M14, M15, M16, M17, M18, M19, M20, M21, M22, M23, M24, M25, M26
part M pins: N1, N2, N3, N4, N5, N6, N7, N8, N9, N10, N11, N12, N13, N14, N15, N16, N17, N18, N19, N20, N21, N22, N23, N24, N25, N26
part N pins: P1, P2, P3, P4, P5, P6, P7, P8, P9, P10, P11, P12, P13, P14, P15, P16, P17, P18, P19, P20, P21, P22, P23, P24, P25, P26
part O pins: R1, R2, R3, R4, R5, R6, R7, R8, R9, R10, R11, R12, R13, R14, R15, R16, R17, R18, R19, R20, R21, R22, R23, R24, R25, R26
part P pins: T1, T2, T3, T4, T5, T6, T7, T8, T9, T10, T11, T12, T13, T14, T15, T16, T17, T18, T19, T20, T21, T22, T23, T24, T25, T26
part Q pins: U1, U2, U3, U4, U5, U6, U7, U8, U9, U10, U11, U12, U13, U14, U15, U16, U17, U18, U19, U20, U21, U22, U23, U24, U25, U26
part R pins: V1, V2, V3, V4, V5, V6, V7, V8, V9, V10, V11, V12, V13, V14, V15, V16, V17, V18, V19, V20, V21, V22, V23, V24, V25, V26
part S pins: W1, W2, W3, W4, W5, W6, W7, W8, W9, W10, W11, W12, W13, W14, W15, W16, W17, W18, W19, W20, W21, W22, W23, W24, W25, W26
part T pins: Y1, Y2, Y3, Y4, Y5, Y6, Y7, Y8, Y9, Y10, Y11, Y12, Y13, Y14, Y15, Y16, Y17, Y18, Y19, Y20, Y21, Y22, Y23, Y24, Y25, Y26
part U pins: AA1, AA2, AA3, AA4, AA5, AA6, AA7, AA8, AA9, AA10, AA11, AA12, AA13, AA14, AA15, AA16, AA17, AA18, AA19, AA20, AA21, AA22, AA23, AA24, AA25, AA26
part V pins: AB1, AB2, AB3, AB4, AB5, AB6, AB7, AB8, AB9, AB10, AB11, AB12, AB13, AB14, AB15, AB16, AB17, AB18, AB19, AB20, AB21, AB22, AB23, AB24, AB25, AB26
part W pins: AC1, AC2, AC3, AC4, AC5, AC6, AC7, AC8, AC9, AC10, AC11, AC12, AC13, AC14, AC15, AC16, AC17, AC18, AC19, AC20, AC21, AC22, AC23, AC24, AC25, AC26
part X pins: AD1, AD2, AD3, AD4, AD5, AD6, AD7, AD8, AD9, AD10, AD11, AD12, AD13, AD14, AD15, AD16, AD17, AD18, AD19, AD20, AD21, AD22, AD23, AD24, AD25, AD26
part Y pins: AE1, AE2, AE3, AE4, AE5, AE6, AE7, AE8, AE9, AE10, AE11, AE12, AE13, AE14, AE15, AE16, AE17, AE18, AE19, AE20, AE21, AE22, AE23, AE24, AE25, AE26
part Z pins: AF2, AF3, AF4, AF5, AF6, AF7, AF8, AF9, AF10, AF11, AF12, AF13, AF14, AF15, AF16, AF17, AF18, AF19, AF20, AF21, AF22, AF23, AF25

## HEADER 1
designator JP?, comment CON_VOUT  Supplier Part Number 1: A122848-ND
Supplier 1: Digi-Key
footprint SIP1
pins: 1